# Altium schematic symbol library RNG_Parts.SchLib: 131 symbols (part 1 of 2)
Pins are listed as number, name and electrical type; pins without a type are passive.

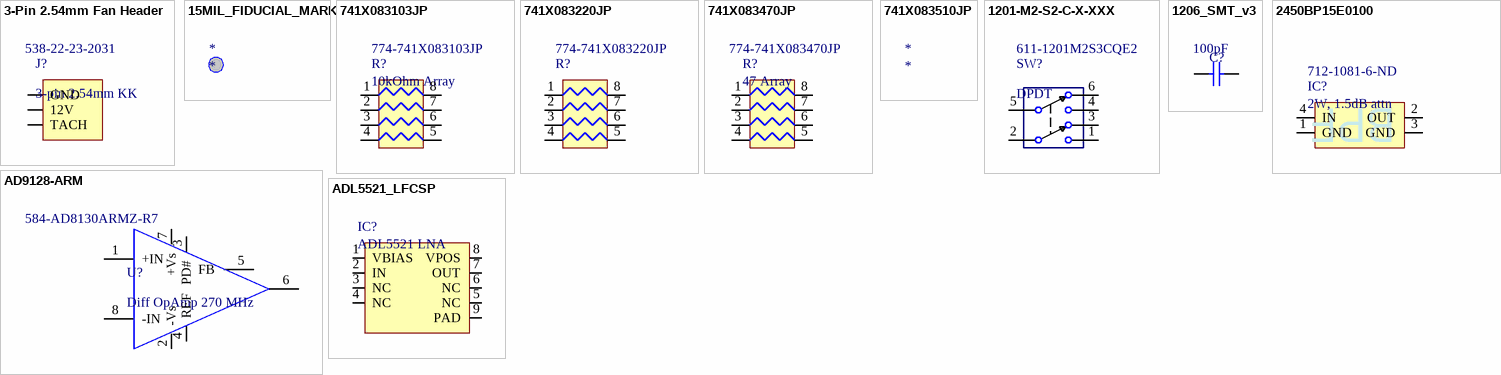
[diagram p0: symbols 3-Pin 2.54mm Fan Header to ADL5521_LFCSP]

## 3-Pin 2.54mm Fan Header
designator J?, comment 3-pin 2.54mm KK  Supplier Part Number 1: 538-22-23-2031
Molex KK Series PCB Mount 3-pin 2.54mm Fan Header; Supplier 1: Mouser
footprint 3-Pin_Fan_Header (Molex KK 2.54mm 3-Pin Fan Header)
pins: 1 GND (power), 2 12V (power), 3 TACH (power)

## 15MIL_FIDUCIAL_MARK
designator *
footprint 1.5mm_FIDUCIAL_v4 (Fiducial Mark - large size w 1mm clearance)

## 741X083103JP
designator R?, comment 10kOhm Array  Supplier Part Number 1: 774-741X083103JP
10k Ohm 4x0402 Resistor Array; Supplier 1: Mouser
footprint 741X083_ChipArray_0402x4_v2 (CTS Chip Array, 4x 0402 Parts for 741X083, 741C083 Part Code)
pins: 1, 2, 3, 4, 5, 6, 7, 8

## 741X083220JP
designator R?, comment Supplier Part Number 1: 774-741X083220JP  (hidden comment: 22 Array)
22 Ohm 4x0402 Resistor Array; Supplier 1: Mouser
footprint 741X083_ChipArray_0402x4_v2 (CTS Chip Array, 4x 0402 Parts for 741X083, 741C083 Part Code)
pins: 1, 2, 3, 4, 5, 6, 7, 8

## 741X083470JP
designator R?, comment 47 Array  Supplier Part Number 1: 774-741X083470JP
47 Ohm 4x0402 Resistor Array; Supplier 1: Mouser
footprint 741X083_ChipArray_0402x4_v2 (CTS Chip Array, 4x 0402 Parts for 741X083, 741C083 Part Code)
pins: 1, 2, 3, 4, 5, 6, 7, 8

## 741X083510JP
designator *
51 Ohm 4x0402 Resistor Array
footprint 741X083_ChipArray_0402x4_v2 (CTS Chip Array, 4x 0402 Parts for 741X083, 741C083 Part Code)

## 1201-M2-S2-C-X-XXX
designator SW?, comment DPDT  Supplier Part Number 1: 611-1201M2S3CQE2
DPDT 6A Slide Switch C&K Thru; Supplier 1: Mouser
footprint 1201-M2-S3-C-QE2 (C&K 1000 Series DPDT Slide Switch Thru Mount)
pins: 1 (power), 2 (power), 3 (power), 4 (power), 5 (power), 6 (power)

## 1206_SMT_v3
designator C?, comment value 100pF  (hidden comment: 1206)
1206 SMT Capacitor
footprint 1206_SMT_v3 (1206 Chip Cap, Res, Ind)
pins: 1, 2

## 2450BP15E0100
designator IC?, comment 2W, 1.5dB attn  Supplier Part Number 1: 712-1081-6-ND
Johanson 2450 MHz Band Pass Ceramic Filter 2400-2500MHz; Supplier 1: Digi-Key
footprint 2450BP15E0100 (Johanson 2450 MHz Band Pass Filter)
pins: 1 GND, 2 OUT, 3 GND, 4 IN
text: BPF

## AD9128-ARM
designator U?, comment Diff OpAmp 270 MHz  Supplier Part Number 1: 584-AD8130ARMZ-R7
AD Differential Receiver Amplifier, 270 MHz; Supplier 1: Mouser
footprint MSOP-8 (TSOP, 8-Leads, Body 3.00x3.00mm, Pitch 0.65mm, IPC Medium Density)
pins: 1 +IN, 2 -Vs, 3 PD#, 4 REF, 5 FB, 6 OUT, 7 +Vs, 8 -IN

## ADL5521_LFCSP
designator IC?, comment ADL5521 LNA
AD 400-4000 MHz LNA, NF 0.8 dB, Gain 20.8 dB
footprint ADL5521_QFN127P600-8N_v4 (ADL5521 8-pin LFCSP)
pins: 1 VBIAS, 2 IN, 3 NC, 4 NC, 5 NC, 6 NC, 7 OUT, 8 VPOS (power), 9 PAD

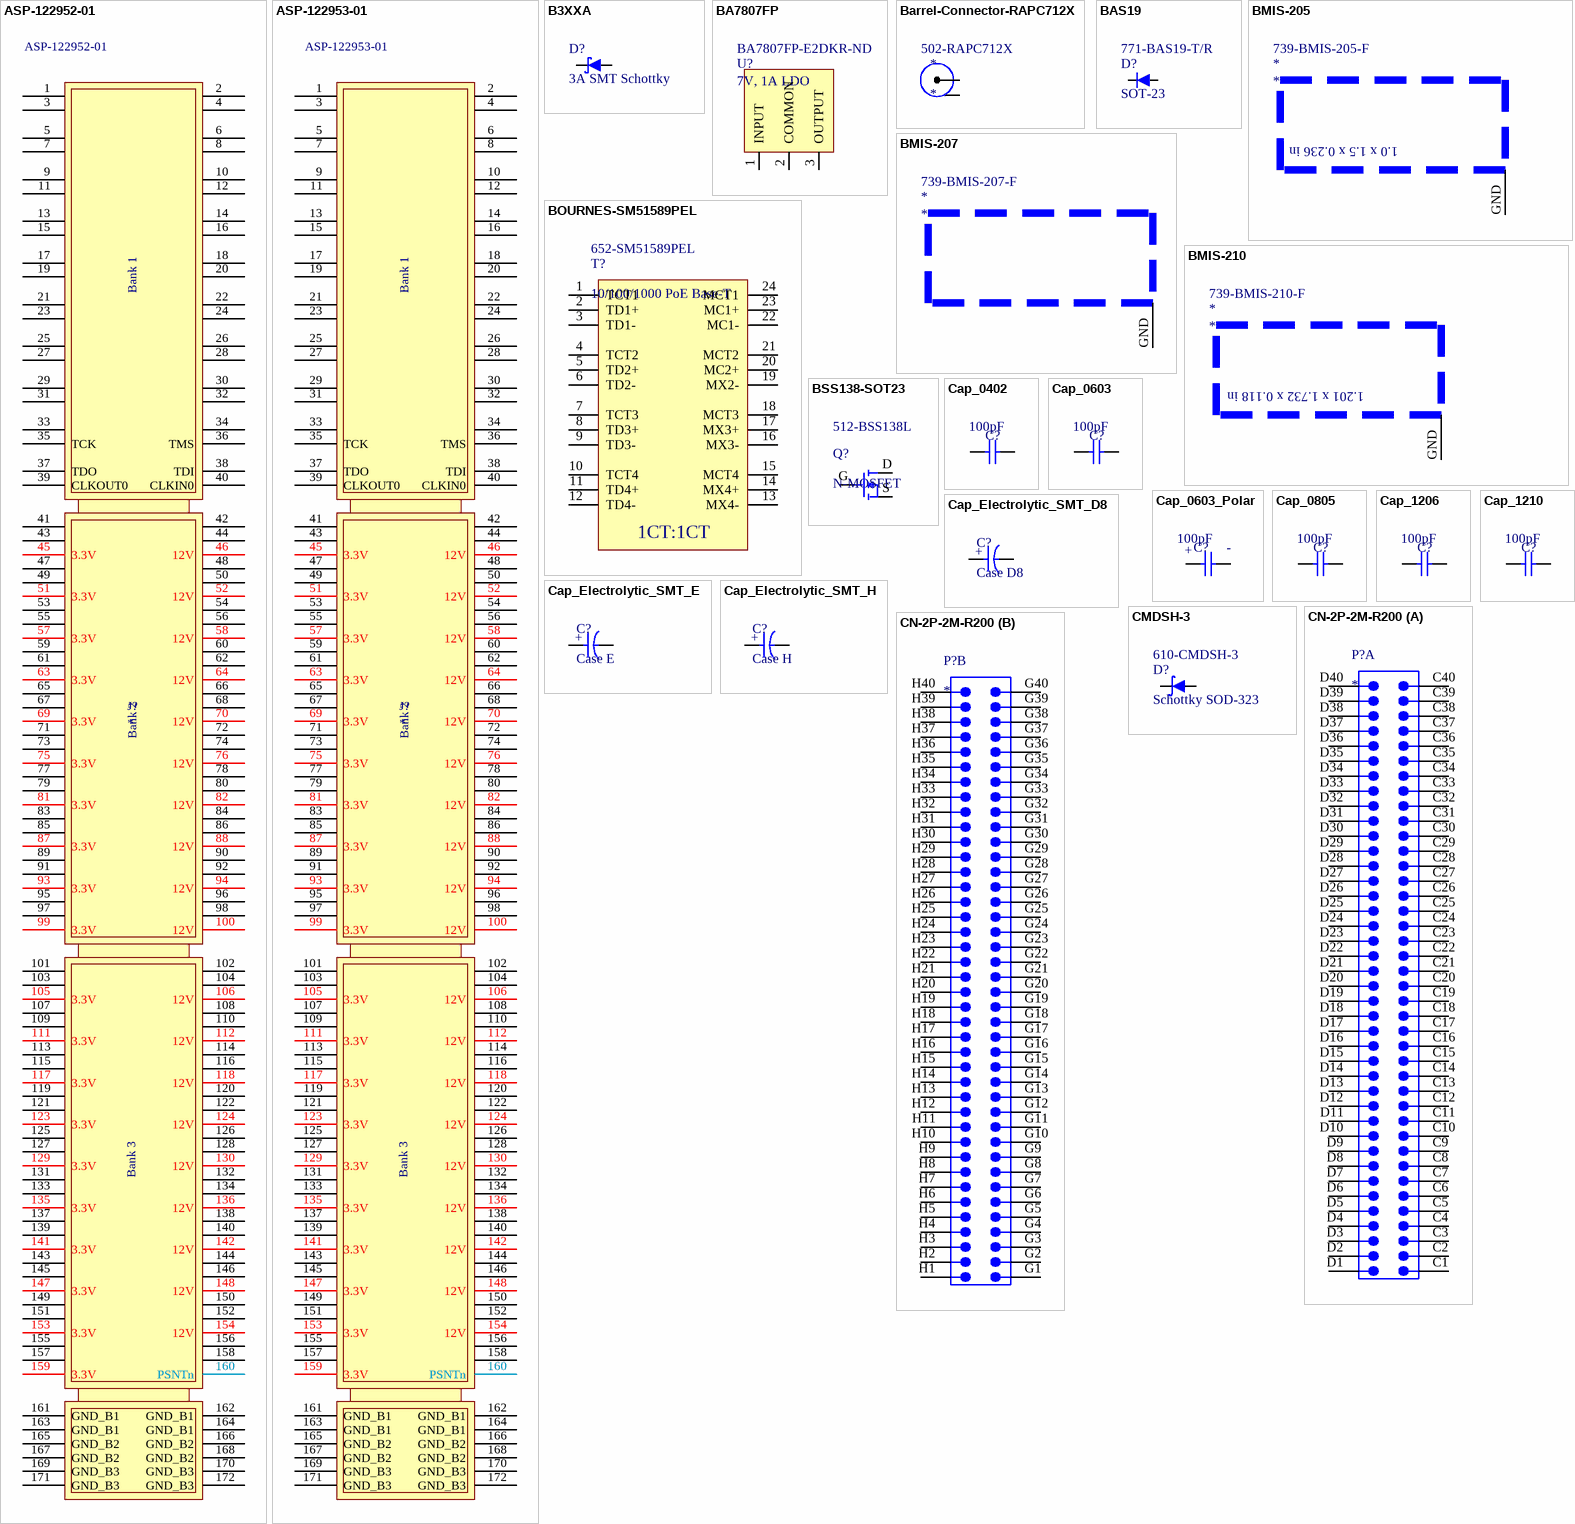
[diagram p1: symbols ASP-122952-01 to CN-2P-2M-R200]

## ASP-122952-01
designator J?
Samtec HSMC Daughtercard Connector (Male)
footprint ASP-122952-01 (Samtec HSMC Daughtercard Connector)
pins: 1, 2, 3, 4, 5, 6, 7, 8, 9, 10, 11, 12, 13, 14, 15, 16, 17, 18, 19, 20, 21, 22, 23, 24, 25, 26, 27, 28, 29, 30, 31, 32, 33 SDA, 34 SCL, 35 TCK, 36 TMS, 37 TDO, 38 TDI, 39 CLKOUT0 (power), 40 CLKIN0 (power), 41, 42, 43, 44, 45 3.3V (power), 46 12V (power), 47, 48, 49, 50, 51 3.3V (power), 52 12V (power), 53, 54, 55, 56, 57 3.3V (power), 58 12V (power), 59, 60, 61, 62, 63 3.3V (power), 64 12V (power), 65, 66, 67, 68, 69 3.3V (power), 70 12V (power), 71, 72, 73, 74, 75 3.3V (power), 76 12V (power), 77, 78, 79, 80, 81 3.3V (power), 82 12V (power), 83, 84, 85, 86, 87 3.3V (power), 88 12V (power), 89, 90, 91, 92, 93 3.3V (power), 94 12V (power), 95, 96, 97, 98, 99 3.3V (power), 100 12V (power), 101, 102, 103, 104, 105 3.3V (power), 106 12V (power), 107, 108, 109, 110, 111 3.3V (power), 112 12V (power), 113, 114, 115, 116, 117 3.3V (power), 118 12V (power), 119, 120, 121, 122, 123 3.3V (power), 124 12V (power), 125, 126, 127, 128, 129 3.3V (power), 130 12V (power), 131, 132, 133, 134, 135 3.3V (power), 136 12V (power), 137, 138, 139, 140, 141 3.3V (power), 142 12V (power), 143, 144, 145, 146, 147 3.3V (power), 148 12V (power), 149, 150, 151, 152, 153 3.3V (power), 154 12V (power), 155, 156, 157, 158, 159 3.3V (power), 160 PSNTn (power), 161 GND_B1 (power), 162 GND_B1 (power), 163 GND_B1 (power), 164 GND_B1 (power), 165 GND_B2 (power), 166 GND_B2 (power), 167 GND_B2 (power), 168 GND_B2 (power), 169 GND_B3 (power), 170 GND_B3 (power), 171 GND_B3 (power), 172 GND_B3 (power)
text: Bank 1; Bank 2; Bank 3

## ASP-122953-01
designator J?
Samtec HSMC Host Connector (Female)
footprint ASP-122953-01_v3 (Samtec HSMC Motherboard Connector)
pins: 1, 2, 3, 4, 5, 6, 7, 8, 9, 10, 11, 12, 13, 14, 15, 16, 17, 18, 19, 20, 21, 22, 23, 24, 25, 26, 27, 28, 29, 30, 31, 32, 33 SDA, 34 SCL, 35 TCK, 36 TMS, 37 TDO, 38 TDI, 39 CLKOUT0, 40 CLKIN0 (power), 41, 42, 43, 44, 45 3.3V (power), 46 12V (power), 47, 48, 49, 50, 51 3.3V (power), 52 12V (power), 53, 54, 55, 56, 57 3.3V (power), 58 12V (power), 59, 60, 61, 62, 63 3.3V (power), 64 12V (power), 65, 66, 67, 68, 69 3.3V (power), 70 12V (power), 71, 72, 73, 74, 75 3.3V (power), 76 12V (power), 77, 78, 79, 80, 81 3.3V (power), 82 12V (power), 83, 84, 85, 86, 87 3.3V (power), 88 12V (power), 89, 90, 91, 92, 93 3.3V (power), 94 12V (power), 95, 96, 97, 98, 99 3.3V (power), 100 12V (power), 101, 102, 103, 104, 105 3.3V (power), 106 12V (power), 107, 108, 109, 110, 111 3.3V (power), 112 12V (power), 113, 114, 115, 116, 117 3.3V (power), 118 12V (power), 119, 120, 121, 122, 123 3.3V (power), 124 12V (power), 125, 126, 127, 128, 129 3.3V (power), 130 12V (power), 131, 132, 133, 134, 135 3.3V (power), 136 12V (power), 137, 138, 139, 140, 141 3.3V (power), 142 12V (power), 143, 144, 145, 146, 147 3.3V (power), 148 12V (power), 149, 150, 151, 152, 153 3.3V (power), 154 12V (power), 155, 156, 157, 158, 159 3.3V (power), 160 PSNTn (power), 161 GND_B1 (power), 162 GND_B1 (power), 163 GND_B1 (power), 164 GND_B1 (power), 165 GND_B2 (power), 166 GND_B2 (power), 167 GND_B2 (power), 168 GND_B2 (power), 169 GND_B3 (power), 170 GND_B3 (power), 171 GND_B3 (power), 172 GND_B3 (power)
text: Bank 1; Bank 2; Bank 3

## B3XXA
designator D?, comment 3A SMT Schottky
3.0A SMT Schottky Barrier Rectifier Diode
footprint DO-214AC-SMA (SMT Diode, Package DO-214AC (SMA))
pins: A, K

## BA7807FP
designator U?, comment 7V, 1A LDO  Supplier Part Number 1: BA7807FP-E2DKR-ND
ROHM 7V, 1000mA LDO; Supplier 1: Digi-Key
footprint TO252-3 (TO252-3 Footprint for ROHM BA7807FP-E2, 7V, 1A LDO)
pins: 1 INPUT, 2 COMMON, 3 OUTPUT

## Barrel-Connector-RAPC712X
designator *  Supplier Part Number 1: 502-RAPC712X
2.5mm Barrel Jack Rt-Angle Thru-Mount; Supplier 1: Mouser
footprint RAPC712X (Rt Angle 2.5mm PCB Thru DC Power Jack RAPC712X)
pins: 1 GND (power), 2 PWR (power)

## BAS19
designator D?, comment SOT-23  Supplier Part Number 1: 771-BAS19-T/R
NXP General Purpose Diode SOT-23; Supplier 1: Mouser
footprint SOT-23-3-BSS138 (SOT-23-3 Fairchild BSS138 Pinout)
pins: D K, G A

## BMIS-205
designator *  Supplier Part Number 1: 739-BMIS-205-F
EMI Shield 1.0 x 1.5 x 0.236 LairdTech; Supplier 1: Mouser
footprint BMIS-205 (LairdTech EMI 2-part Shield Footprint 1.0 x 1.5 in)
pins: GND
text: 1.0 x 1.5 x 0.236 in

## BMIS-207
designator *  Supplier Part Number 1: 739-BMIS-207-F
EMI Shield 1.747x1.747x0.384 in LairdTech; Supplier 1: Mouser
footprint BMIS-207 (LairdTech EMI Shield 1.747x1.747x0.384 in)
pins: GND

## BMIS-210
designator *  Supplier Part Number 1: 739-BMIS-210-F
EMI Shield 1.201x 1.732 x 0.118 LairdTech; Supplier 1: Mouser
footprint BMIS-210 (LairdTech EMI Shield 1.201x1.732x0.118 in)
pins: GND
text: 1.201 x 1.732 x 0.118 in

## BOURNES-SM51589PEL
designator T?, comment 10/100/1000 PoE Base-T  Supplier Part Number 1: 652-SM51589PEL
SM51589PEL LAN 10/100/1000 Base-T Transformer (PoE) Module; Supplier 1: Mouser
footprint BOURNS-SM51589PEL (Bournes SM51589PEL LAN 10/100/1000 Base-T Transformer PoE Module)
pins: 1 TCT1 (power), 2 TD1+ (power), 3 TD1- (power), 4 TCT2 (power), 5 TD2+ (power), 6 TD2- (power), 7 TCT3 (power), 8 TD3+ (power), 9 TD3- (power), 10 TCT4 (power), 11 TD4+ (power), 12 TD4- (power), 13 MX4- (power), 14 MX4+ (power), 15 MCT4 (power), 16 MX3- (power), 17 MX3+ (power), 18 MCT3 (power), 19 MX2- (power), 20 MC2+ (power), 21 MCT2 (power), 22 MC1- (power), 23 MC1+ (power), 24 MCT1 (power)
text: 1CT:1CT

## BSS138-SOT23
designator Q?, comment N-MOSFET  Supplier Part Number 1: 512-BSS138L
SOT-23-3 N-MOSFET; Supplier 1: Mouser
footprint SOT-23-3-BSS138 (SOT-23-3 Fairchild BSS138 Pinout)
pins: D, G, S

## Cap_0402
designator C?, comment value 100pF  (hidden comment: 0402)
0402 SMT Capacitor
footprint 0402_SMT_CAP (0402 Chip Cap, Res, Ind)
pins: 1, 2

## Cap_0603
designator C?, comment value 100pF  (hidden comment: 0603)
0603 SMT Capacitor
footprint 0603_SMT_CAP (0603 Chip Cap)
pins: 1, 2

## Cap_0603_Polar
designator C?, comment value 100pF  (hidden comment: 0603)
0603 SMT Capacitor with polar markings
footprint 0603_SMT_CAP_POLAR (0603 Chip Cap with Polar Placement Marks)
pins: 1, 2
text: +; -

## Cap_0805
designator C?, comment value 100pF  (hidden comment: 0603)
0805 SMT Capacitor
footprint 0805_SMT_CAP (0805 Chip Capacitor)
pins: 1, 2

## Cap_1206
designator C?, comment value 100pF  (hidden comment: 1206)
1206 SMT Capacitor
footprint 1206_SMT_IPC (Chip Capacitor, 2-Leads, Body 3.10x1.60mm, IPC Medium Density)
pins: 1, 2

## Cap_1210
designator C?, comment value 100pF  (hidden comment: 1210)
1210 SMT Capacitor
footprint 1210_Chip_Cap_v2 (Chip Capacitor, 2-Leads, Body 3.05x2.54mm, IPC Medium Density)
pins: 1, 2

## Cap_Electrolytic_SMT_D8
designator C?, comment Case D8
Electrolytic SMT Capacitor, Case D8
footprint Panasonic_SMT_D8 (Panasonic Body D8 Electrolytic SMT Cap)
pins: A, K
text: +

## Cap_Electrolytic_SMT_E
designator C?, comment Case E
Electrolytic SMT Capacitor, Case E
footprint Panasonic_SMT_SV_E (Panasonic Type V, Series S, Body E Electrolytic SMT Cap)
pins: A, K
text: +

## Cap_Electrolytic_SMT_H
designator C?, comment Case H
Electrolytic SMT Capacitor, Case H
footprint Panasonic_SMT_SV_H (Panasonic Type V, Series S, Body H Electrolytic SMT Cap)
pins: A, K
text: +

## CMDSH-3
designator D?, comment Schottky SOD-323  Supplier Part Number 1: 610-CMDSH-3
SMT Silicon Schottky Diode; Supplier 1: Mouser
footprint SOD-323 (SODFL, 2-Leads, Body 1.30x2.50mm, IPC Medium Density)
pins: A, K

## CN-2P-2M-R200
designator P?
Board-to-Board Connector, Vertical, 10-Row, Pitch 1.27mm, 200-Position
footprint BTB-SM1-27-2V200M (Board-to-Board Connector, Vertical, 10-Row, Pitch 1.27mm, 200-Position)
part A pins: C1, C2, C3, C4, C5, C6, C7, C8, C9, C10, C11, C12, C13, C14, C15, C16, C17, C18, C19, C20, C21, C22, C23, C24, C25, C26, C27, C28, C29, C30, C31, C32, C33, C34, C35, C36, C37, C38, C39, C40, D1, D2, D3, D4, D5, D6, D7, D8, D9, D10, D11, D12, D13, D14, D15, D16, D17, D18, D19, D20, D21, D22, D23, D24, D25, D26, D27, D28, D29, D30, D31, D32, D33, D34, D35, D36, D37, D38, D39, D40
part B pins: G1, G2, G3, G4, G5, G6, G7, G8, G9, G10, G11, G12, G13, G14, G15, G16, G17, G18, G19, G20, G21, G22, G23, G24, G25, G26, G27, G28, G29, G30, G31, G32, G33, G34, G35, G36, G37, G38, G39, G40, H1, H2, H3, H4, H5, H6, H7, H8, H9, H10, H11, H12, H13, H14, H15, H16, H17, H18, H19, H20, H21, H22, H23, H24, H25, H26, H27, H28, H29, H30, H31, H32, H33, H34, H35, H36, H37, H38, H39, H40
1 alternate drawing of the same symbol

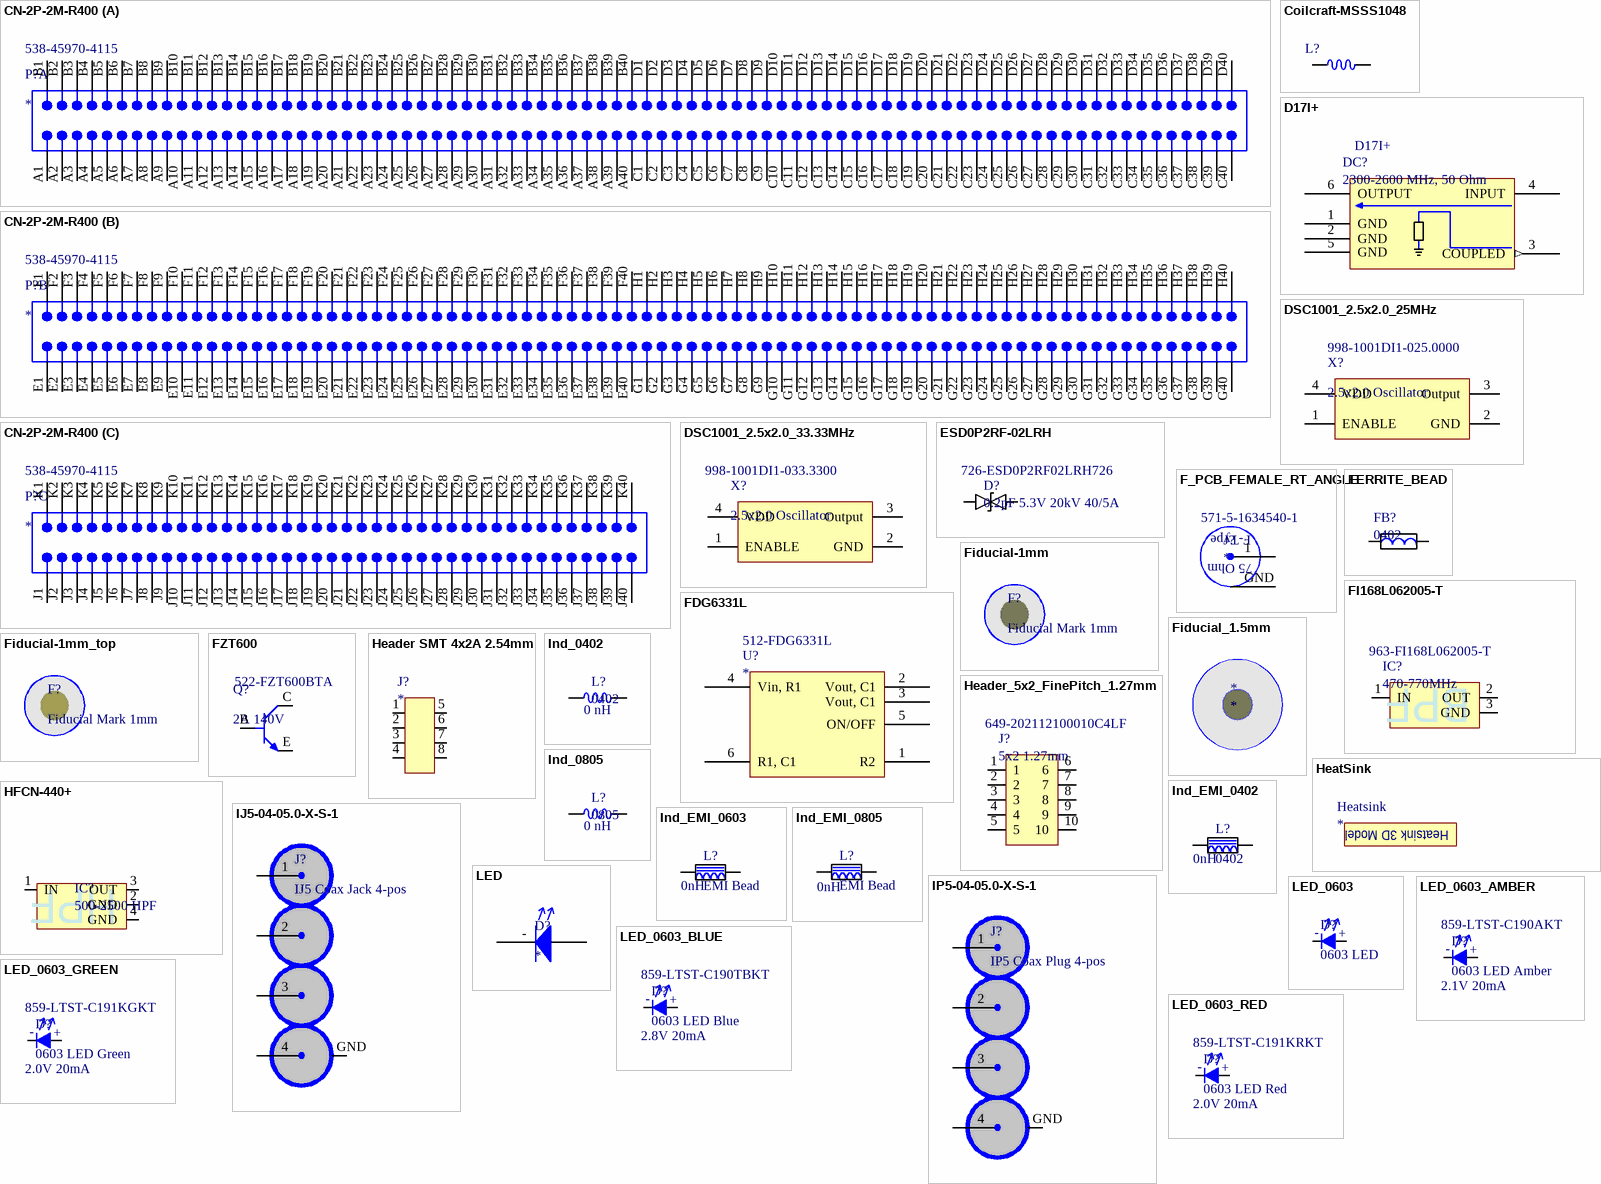
[diagram p2: symbols CN-2P-2M-R400 to LED_0603_RED]

## CN-2P-2M-R400
designator P?  Supplier Part Number 1: 538-45970-4115
Board-to-Board Connector, Vertical, 10-Row, Pitch 1.27mm, 400-Position; Manufacturer: Molex; Manufacturer Part Number: 45970-4115; Current Rating: 2.7 A; Voltage Rating: 240 V; Number of Positions / Contacts: 400; Supplier 1: Mouser; RoHS: RoHS Compliant; Category: Board to Board & Mezzanine Connectors; Stock 1: 161; Pricing 1: 1=36.56, 10=32.14, 100=28.08, 300=26.87 (USD); Contact Plating: Gold; Housing Material: Thermoplastic; Mounting Angle: Vertical; Number of Rows: 10; Packaging: Reel; Series: 45970; Termination Style: SMD; Brand: Molex; Contact Material: Copper Alloy; Pitch: 1.27 mm; Product Category: Mezzanine Connectors; Product Type: Plugs; Standard Pack Qty: 300; Tradename: SEARAY; RoHS - Mouser: Y; Minimum Order Quantity: 1; Reeling: True; ComponentLink1URL: http://www.mouser.com/ds/2/276/0459704115_PCB_HEADERS-169229.pdf; ComponentLink1Description: http://www.mouser.com/ds/2/276/0459704115_PCB_HEADERS-169229.pdf
footprint BTB-SM1-27-2V400M (Board-to-Board Connector, Vertical, 10-Row, Pitch 1.27mm, 400-Position)
part A pins: A1, A2, A3, A4, A5, A6, A7, A8, A9, A10, A11, A12, A13, A14, A15, A16, A17, A18, A19, A20, A21, A22, A23, A24, A25, A26, A27, A28, A29, A30, A31, A32, A33, A34, A35, A36, A37, A38, A39, A40, B1, B2, B3, B4, B5, B6, B7, B8, B9, B10, B11, B12, B13, B14, B15, B16, B17, B18, B19, B20, B21, B22, B23, B24, B25, B26, B27, B28, B29, B30, B31, B32, B33, B34, B35, B36, B37, B38, B39, B40, C1, C2, C3, C4, C5, C6, C7, C8, C9, C10, C11, C12, C13, C14, C15, C16, C17, C18, C19, C20, C21, C22, C23, C24, C25, C26, C27, C28, C29, C30, C31, C32, C33, C34, C35, C36, C37, C38, C39, C40, D1, D2, D3, D4, D5, D6, D7, D8, D9, D10, D11, D12, D13, D14, D15, D16, D17, D18, D19, D20, D21, D22, D23, D24, D25, D26, D27, D28, D29, D30, D31, D32, D33, D34, D35, D36, D37, D38, D39, D40
part B pins: E1, E2, E3, E4, E5, E6, E7, E8, E9, E10, E11, E12, E13, E14, E15, E16, E17, E18, E19, E20, E21, E22, E23, E24, E25, E26, E27, E28, E29, E30, E31, E32, E33, E34, E35, E36, E37, E38, E39, E40, F1, F2, F3, F4, F5, F6, F7, F8, F9, F10, F11, F12, F13, F14, F15, F16, F17, F18, F19, F20, F21, F22, F23, F24, F25, F26, F27, F28, F29, F30, F31, F32, F33, F34, F35, F36, F37, F38, F39, F40, G1, G2, G3, G4, G5, G6, G7, G8, G9, G10, G11, G12, G13, G14, G15, G16, G17, G18, G19, G20, G21, G22, G23, G24, G25, G26, G27, G28, G29, G30, G31, G32, G33, G34, G35, G36, G37, G38, G39, G40, H1, H2, H3, H4, H5, H6, H7, H8, H9, H10, H11, H12, H13, H14, H15, H16, H17, H18, H19, H20, H21, H22, H23, H24, H25, H26, H27, H28, H29, H30, H31, H32, H33, H34, H35, H36, H37, H38, H39, H40
part C pins: J1, J2, J3, J4, J5, J6, J7, J8, J9, J10, J11, J12, J13, J14, J15, J16, J17, J18, J19, J20, J21, J22, J23, J24, J25, J26, J27, J28, J29, J30, J31, J32, J33, J34, J35, J36, J37, J38, J39, J40, K1, K2, K3, K4, K5, K6, K7, K8, K9, K10, K11, K12, K13, K14, K15, K16, K17, K18, K19, K20, K21, K22, K23, K24, K25, K26, K27, K28, K29, K30, K31, K32, K33, K34, K35, K36, K37, K38, K39, K40
1 alternate drawing of the same symbol

## Coilcraft-MSSS1048
designator L?  (value not drawn)
Shielded Power Inductor
footprint MSS1048 (MS1048 Coilcraft Shielded Power Inductors)
pins: 1, 2

## D17I+
designator DC?, comment 2300-2600 MHz, 50 Ohm  Supplier Part Number 1: D17I+
Mini-Circuits 2300-2600 MHz Directional Coupler 50 Ohm; Supplier 1: Mini-Circuits
footprint CA531-1_v2 (Mini-Circuits Case Style CA531-1 for Directional Couplers)
pins: 1 GND (power) "Ground", 2 GND (power) "Ground", 3 COUPLED (out) "Coupled RF", 4 INPUT "RF Input", 5 GND (power) "Ground", 6 OUTPUT "RF Output"

## DSC1001_2.5x2.0_25MHz
designator X?, comment 2.5x2.0 Oscillator  Supplier Part Number 1: 998-1001DI1-025.0000
Discera Low-Power Precision CMOS 25 MHz Oscillator - 2.5x2.0 mm; Supplier 1: Mouser
footprint DSC1001-2.5x2.0 (Discera Low-Power Precision Oscillator 2.5x2.0 mm)
pins: 1 ENABLE, 2 GND, 3 Output, 4 VDD

## DSC1001_2.5x2.0_33.33MHz
designator X?, comment 2.5x2.0 Oscillator  Supplier Part Number 1: 998-1001DI1-033.3300
Discera Low-Power Precision CMOS 33.33 MHz Oscillator - 2.5x2.0 mm; Supplier 1: Mouser
footprint DSC1001-2.5x2.0 (Discera Low-Power Precision Oscillator 2.5x2.0 mm)
pins: 1 ENABLE, 2 GND, 3 Output, 4 VDD

## ESD0P2RF-02LRH
designator D?, comment 0.2pF 5.3V 20kV 40/5A  Supplier Part Number 1: 726-ESD0P2RF02LRH726
Bidirectional TVS Diode for RF Protection - Infineon; Supplier 1: Mouser
footprint TSLP-2-17 (PG-TSLP-2-17_Infineon_ESD0P2RF_TVS_Diode)
pins: 1, 2

## F_PCB_FEMALE_RT_ANGLE
designator J?  Supplier Part Number 1: 571-5-1634540-1
Right-Angle Through-PCB Female F-Type Connector, TE Connectivity, 75 Ohm; Supplier 1: Mouser
footprint F_RT_ANGLE_PCB_FEMALE_5-1634540-1 (TE Connectivity 5-1634540-1 F-Type PCB Female Rt-Angle Mount)
pins: 1 Signal (power), GND (power)
text: F-Type; 75 Ohm

## FDG6331L
designator U?  Supplier Part Number 1: 512-FDG6331L
Integrated Load Switch, 0.8A, 2.5-8V, SC70-6; Supplier 1: Mouser
footprint SC-70-6 (Fairchild SC-70 6-pin package)
pins: 1 R2, 2 Vout, C1, 3 Vout, C1, 4 Vin, R1, 5 ON/OFF, 6 R1, C1

## FERRITE_BEAD
designator FB?, comment 0402
Ferrite Bead, Various Values
footprint 0402_SMT_v2 (0402 Chip Cap, Res, Ind)
pins: 1, 2

## FI168L062005-T
designator IC?, comment 470-770MHz  Supplier Part Number 1: 963-FI168L062005-T
Taido Yuden Band- and Low-Pass Ceramic Filter for FI168 Type; Supplier 1: Mouser
footprint FI168B/L Taido Yuden (Taido Yuden Band- and Low-Pass Ceramic Filter for FI168 Type)
pins: 1 IN, 2 OUT, 3 GND
text: BPF

## Fiducial-1mm
designator F?, comment Fiducial Mark 1mm
footprint 1mm_FIDUCIAL (Fiducial Mark)

## Fiducial-1mm_top
designator F?, comment Fiducial Mark 1mm
footprint 1mm_FIDUCIAL-TOPONLY (Fiducial Mark)

## Fiducial_1.5mm
designator *
footprint 1.5mm_FIDUCIAL_v4 (Fiducial Mark - large size w 1mm clearance)

## FZT600
designator Q?, comment 2A 140V  Supplier Part Number 1: 522-FZT600BTA
NPN Power Darlington Transistor; Supplier 1: Mouser
footprint SOT-223-3-FZT600 (SOT223 pkg, 6.7 x 7.3 x 1.8 mm)
pins: B, C, E

## Header SMT 4x2A 2.54mm
designator J?
Header SMT 4x2A 2.54mm
footprint 2.54mm_4x2_HDR (4x2 SMT Pin Header, 2.54mm Pitch)
pins: 1, 2, 3, 4, 5, 6, 7, 8

## Header_5x2_FinePitch_1.27mm
designator J?, comment 5x2 1.27mm  Supplier Part Number 1: 649-202112100010C4LF
5X2 1.27 SMT Header Pins; Supplier 1: Mouser
footprint 1.27mm_2x5_SMT_HDR (2x5 SMT Pin Header, 1.27mm Pitch)
pins: 1, 2, 3, 4, 5, 6, 7, 8, 9, 10

## HeatSink
designator Heatsink
HeatSinkUSA 3D Model
text: Heatsink 3D Model

## HFCN-440+
designator IC?, comment 500-2500 HPF
Mini-Circuits High-Pass 500-2500 MHz Filter SMT
footprint HFCN-440+_v2 (Mini-Circuits High-Pass 500-2500 MHz SMT High-Pass Filter)
pins: 1 IN, 2 GND, 3 OUT, 4 GND
text: HPF

## IJ5-04-05.0-X-S-1
designator J?, comment IJ5 Coax Jack 4-pos
Samtec 50 Ohm High Isolation RF Jack, 4-pos; Manufacturer 1: Samtec
footprint IJ5-04-05.0-X-S-1 (Samtec IJ5 50 Ohm High-Isolation RF Jack, 4-POS, Single Row)
pins: 1, 2, 3, 4, GND

## Ind_0402
designator L?, comment 0402  value 0 nH
0402 SMT Inductor
footprint 0402_SMT_RES (0402 Imperial Surface Mount Resistor)
pins: 1, 2

## Ind_0805
designator L?, comment 0805  value 0 nH
0805 SMT Inductor
footprint 0805_SMT_RES (0805 Chip Resistor)
pins: 1, 2

## Ind_EMI_0402
designator L?, comment 0402  value 0nH
0402 SMT EMI Inductor
footprint CAP0402R (Capacitor 0402 reflow soldering)
pins: 1, 2

## Ind_EMI_0603
designator L?, comment EMI Bead  value 0nH
0603 SMT EMI Inductor
footprint CAP0603R (capacitor 0603 reflow soldering)
pins: 1, 2

## Ind_EMI_0805
designator L?, comment EMI Bead  value 0nH
0805 SMT EMI Inductor
footprint CAP0805R (capacitor 0805 reflow soldering)
pins: 1, 2

## IP5-04-05.0-X-S-1
designator J?, comment IP5 Coax Plug 4-pos
Samtec 50 Ohm High Isolation RF Plugs, 4-pos
footprint IP5-04-05.0-X-S-1 (Samtec IP5 50 Ohm High Isolation RF Plugs, 4 Pos, Single Row)
pins: 1, 2, 3, 4, GND

## LED
designator D?
footprint 0603_SMT_POLAR (0603 Chip LED w/ Polarity)
pins: + Anode (power), - Cathode (power)

## LED_0603
designator D?, comment 0603 LED
0603 LED with Polar Markings
footprint 0603_SMT_LED (0603 Chip Cap with Polar Placement Marks)
pins: 1 P, 2 N
text: -; +

## LED_0603_AMBER
designator D?, comment 0603 LED Amber  value 2.1V 20mA  Supplier Part Number 1: 859-LTST-C190AKT
0603 LED with Polar Markings; Supplier 1: Mouser
footprint 0603_SMT_LED (0603 Chip Cap with Polar Placement Marks)
pins: 1 P, 2 N
text: -; +

## LED_0603_BLUE
designator D?, comment 0603 LED Blue  value 2.8V 20mA  Supplier Part Number 1: 859-LTST-C190TBKT
0603 LED with Polar Markings; Supplier 1: Mouser
footprint 0603_SMT_LED (0603 Chip Cap with Polar Placement Marks)
pins: 1 P, 2 N
text: -; +

## LED_0603_GREEN
designator D?, comment 0603 LED Green  value 2.0V 20mA  Supplier Part Number 1: 859-LTST-C191KGKT
0603 LED with Polar Markings; Supplier 1: Mouser
footprint 0603_SMT_LED (0603 Chip Cap with Polar Placement Marks)
pins: 1 P, 2 N
text: -; +

## LED_0603_RED
designator D?, comment 0603 LED Red  value 2.0V 20mA  Supplier Part Number 1: 859-LTST-C191KRKT
0603 LED with Polar Markings; Supplier 1: Mouser
footprint 0603_SMT_LED (0603 Chip Cap with Polar Placement Marks)
pins: 1 P, 2 N
text: -; +

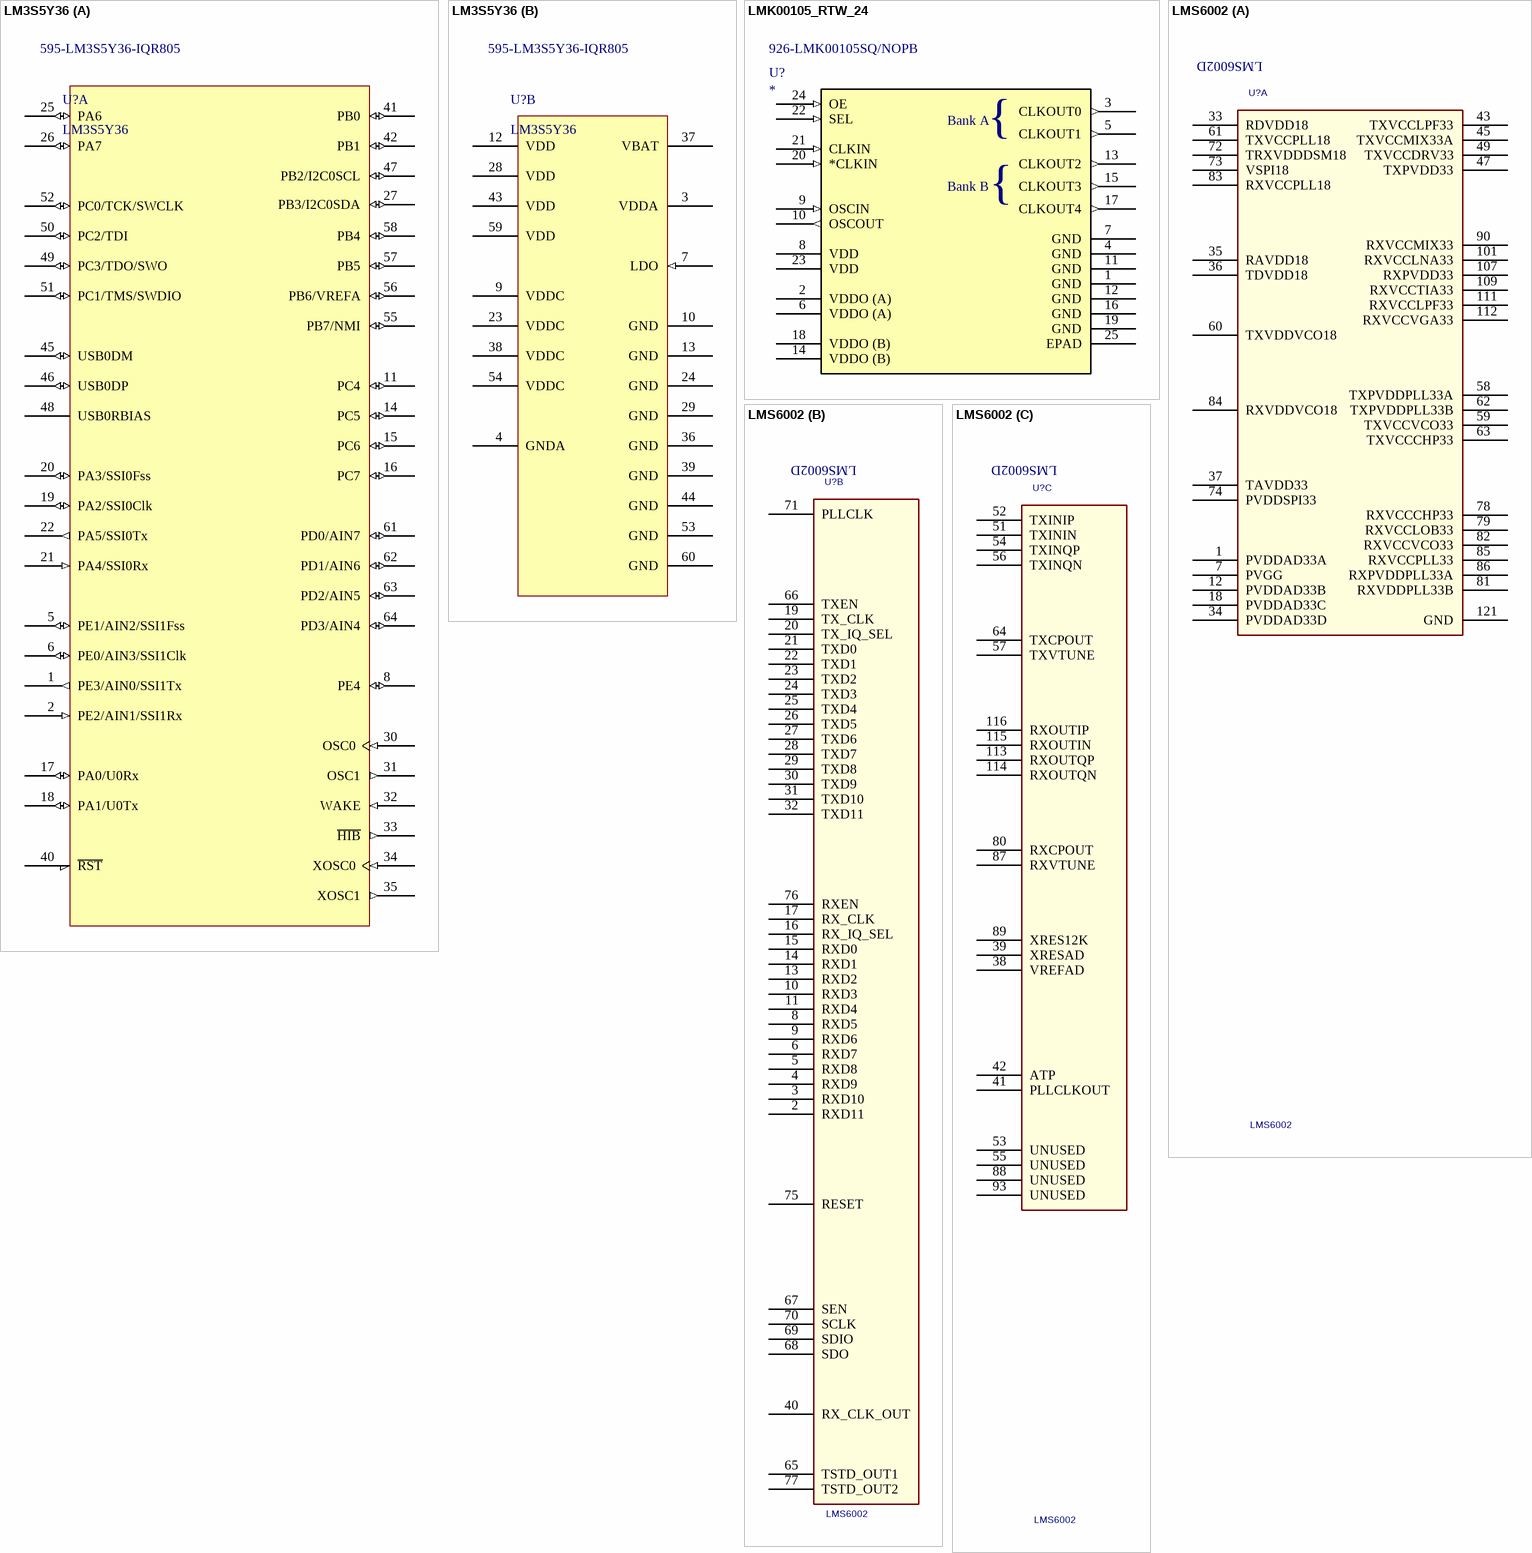
[diagram p3: symbols LM3S5Y36 to LMS6002]

## LM3S5Y36
designator U?  Supplier Part Number 1: 595-LM3S5Y36-IQR805
TI Stellaris LM3S5Y36 Microcontroller; Supplier 1: Mouser
footprint PQFP-64-TI_Stellaris (TSQFP, 64-Leads, Body 12.2x12.2mm (max), Pitch 0.50mm, IPC Medium Density)
part A pins: 1 PE3/AIN0/SSI1Tx (out) "Analog-to-digital converter input 0.", 2 PE2/AIN1/SSI1Rx (in) "Analog-to-digital converter input 1.", 5 PE1/AIN2/SSI1Fss (io) "GPIO port E bit 1.", 6 PE0/AIN3/SSI1Clk (io) "GPIO port E bit 0.", 8 PE4 (io) "GPIO port E bit 4.", 11 PC4 (io) "GPIO port C bit 4.", 14 PC5 (io) "GPIO port C bit 5.", 15 PC6 (io) "GPIO port C bit 6.", 16 PC7 (io) "GPIO port C bit 7.", 17 PA0/U0Rx (io) "UART module 0 receive. When in IrDA mode, this signal has IrDA modulation.", 18 PA1/U0Tx (io) "UART module 0 transmit. When in IrDA mode, this signal has IrDA modulation.", 19 PA2/SSI0Clk (io) "SSI module 0 clock.", 20 PA3/SSI0Fss (io) "SSI module 0 frame.", 21 PA4/SSI0Rx (in) "SSI module 0 receive.", 22 PA5/SSI0Tx (out) "SSI module 0 transmit.", 25 PA6 (io) "GPIO port A bit 6.", 26 PA7 (io) "GPIO port A bit 7.", 27 PB3/I2C0SDA (io) "GPIO port B bit 3.", 30 OSC0 (in) "Main oscillator crystal input or an external clock reference input.", 31 OSC1 (out) "Main oscillator crystal output. Leave unconnected when using a single-ended clock source.", 32 WAKE (in) "An external input that brings the processor out of Hibernate mode when asserted.", 33 ~{HIB} (out) "An output that indicates the processor is in Hibernate mode.", 34 XOSC0 (in) "Hibernation module oscillator crystal input or an external clock reference input. Note that this is either a 4.194304-MHz crystal or a 32.768-kHz oscillator for the Hibernation module RTC. See the CLKSEL bit in the HIBCTL register.", 35 XOSC1 (out) "Hibernation module oscillator crystal input or an external clock reference input. Note that this is either a 4.194304-MHz crystal or a 32.768-kHz oscillator for the Hibernation module RTC. See the CLKSEL bit in the HIBCTL register.", 40 ~{RST} (hiz) "System reset input.", 41 PB0 (io) "GPIO port B bit 0. This pin is not 5-V tolerant.", 42 PB1 (io) "GPIO port B bit 1. This pin is not 5-V tolerant.", 45 USB0DM (io) "Bidirectional differential data pin (D- per USB specification) for USB0.", 46 USB0DP (io) "Bidirectional differential data pin (D+ per USB specification) for USB0.", 47 PB2/I2C0SCL (io) "GPIO port B bit 2.", 48 USB0RBIAS "9.1-kÎ© resistor (1% precision) used internally for USB analog circuitry.", 49 PC3/TDO/SWO (io) "JTAG TDO and SWO.", 50 PC2/TDI (io) "JTAG TDI.", 51 PC1/TMS/SWDIO (io) "JTAG TMS and SWDIO.", 52 PC0/TCK/SWCLK (io) "JTAG/SWD CLK.", 55 PB7/NMI (io) "GPIO port B bit 7.", 56 PB6/VREFA (io) "This input provides a reference voltage used to specify the input voltage at which the ADC converts to a maximum value. In other words, the voltage that is applied to VREFA is the voltage with which an AINn signal is converted to 1023. The VREFA input is limited to the ra", 57 PB5 (io) "GPIO port B bit 5.", 58 PB4 (io) "GPIO port B bit 4.", 61 PD0/AIN7 (io) "GPIO port D bit 0.", 62 PD1/AIN6 (io) "GPIO port D bit 1.", 63 PD2/AIN5 (io) "GPIO port D bit 2.", 64 PD3/AIN4 (io) "GPIO port D bit 3."
part B pins: 3 VDDA (power) "The positive supply for the analog circuits (ADC, Analog Comparators, etc.). These are separated from VDD to minimize the electrical noise contained on VDD from affecting the analog functions. VDDA pins must be supplied with a voltage that meets the specification in , regardless", 4 GNDA (power) "The ground reference for the analog circuits (ADC, Analog Comparators, etc.). These are separated from GND to minimize the electrical noise contained on VDD from affecting the analog functions.", 7 LDO (in) "Low drop-out regulator output voltage. This pin requires an external capacitor between the pin and GND of 1 uF or greater. The LDO pin must also be connected to the VDDC pins at the board level in addition to the decoupling capacitor(s).", 9 VDDC (power) "Positive supply for most of the logic function, including the processor core and most peripherals. The voltage on this pin is 1.3 V and is supplied by the on-chip LDO. The VDDC pins should only be connected to the LDO pin and an external capacitor as specifie", 10 GND (power) "Ground reference for logic and I/O pins.", 12 VDD (power) "Positive supply for I/O and some logic.", 13 GND (power) "Ground reference for logic and I/O pins.", 23 VDDC (power) "Positive supply for most of the logic function, including the processor core and most peripherals. The voltage on this pin is 1.3 V and is supplied by the on-chip LDO. The VDDC pins should only be connected to the LDO pin and an external capacitor as specifie", 24 GND (power) "Ground reference for logic and I/O pins.", 28 VDD (power) "Positive supply for I/O and some logic.", 29 GND (power) "Ground reference for logic and I/O pins.", 36 GND (power) "Ground reference for logic and I/O pins.", 37 VBAT (power) "Power source for the Hibernation module. It is normally connected to the positive terminal of a battery and serves as the battery backup/Hibernation module power-source supply.", 38 VDDC (power) "Positive supply for most of the logic function, including the processor core and most peripherals. The voltage on this pin is 1.3 V and is supplied by the on-chip LDO. The VDDC pins should only be connected to the LDO pin and an external capacitor as specifie", 39 GND (power) "Ground reference for logic and I/O pins.", 43 VDD (power) "Positive supply for I/O and some logic.", 44 GND (power) "Ground reference for logic and I/O pins.", 53 GND (power) "Ground reference for logic and I/O pins.", 54 VDDC (power) "Positive supply for most of the logic function, including the processor core and most peripherals. The voltage on this pin is 1.3 V and is supplied by the on-chip LDO. The VDDC pins should only be connected to the LDO pin and an external capacitor as specifie", 59 VDD (power) "Positive supply for I/O and some logic.", 60 GND (power) "Ground reference for logic and I/O pins."

## LMK00105_RTW_24
designator U?  Supplier Part Number 1: 926-LMK00105SQ/NOPB
TI Universal-to-CMOS 5-Output Clock Buffer; Manufacturer_Part_Number: lmk00105_rtw_24; Vendor: TEXAS INSTRUMENTS; RefDes: RefDes; Type: DEV; Value: Value; Supplier 1: Mouser
footprint RTW24_3 (WQFN-24_TI)
pins: 1 GND (power), 2 VDDO (A) (power), 3 CLKOUT0 (out), 4 GND (power), 5 CLKOUT1 (out), 6 VDDO (A) (power), 7 GND (power), 8 VDD (power), 9 OSCIN (in), 10 OSCOUT (out), 11 GND (power), 12 GND (power), 13 CLKOUT2 (out), 14 VDDO (B) (power), 15 CLKOUT3 (out), 16 GND (power), 17 CLKOUT4 (out), 18 VDDO (B) (power), 19 GND (power), 20 *CLKIN (in), 21 CLKIN (in), 22 SEL (in), 23 VDD (power), 24 OE (in), 25 EPAD
text: Bank A; {; Bank B

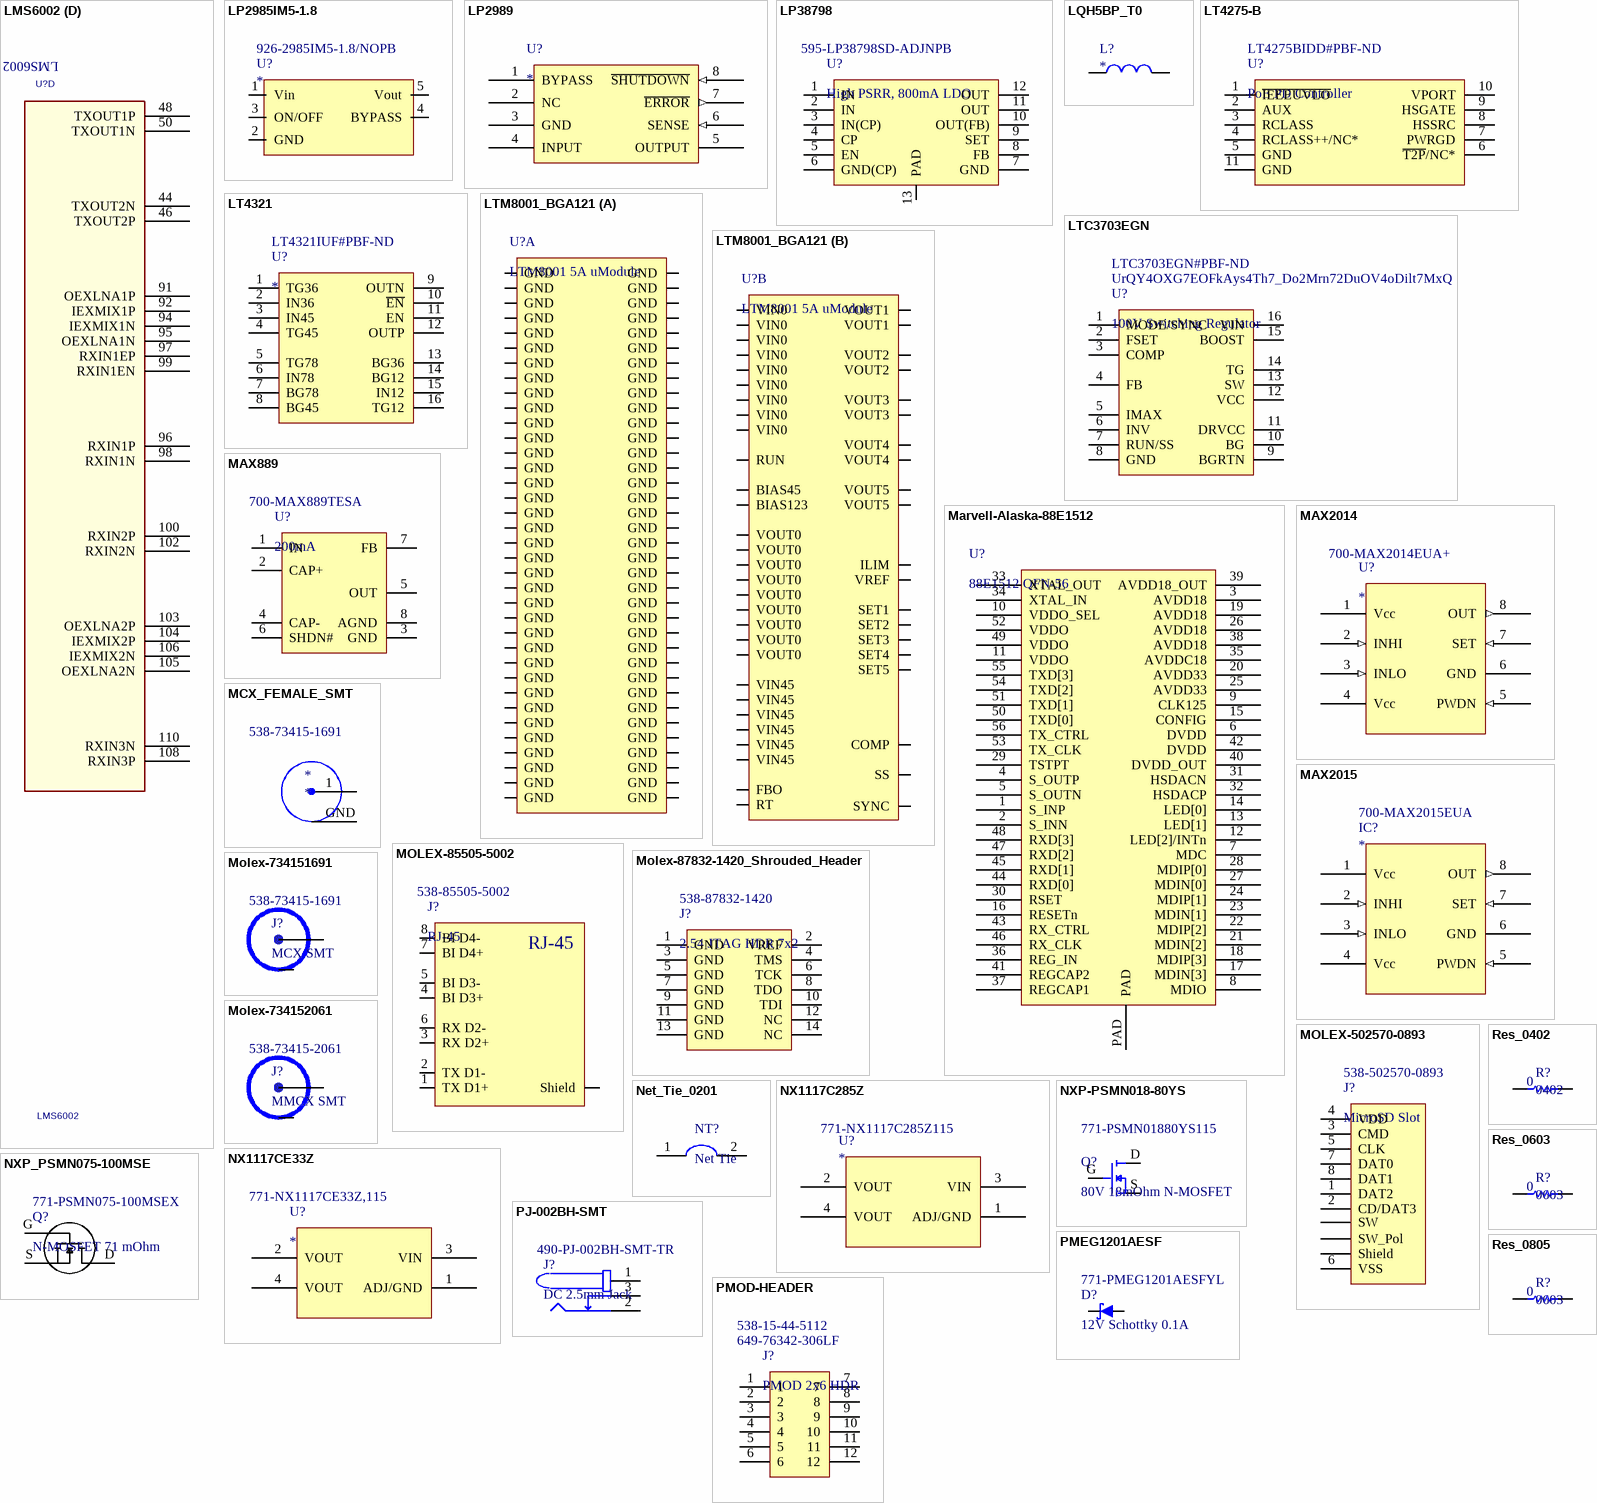
[diagram p4: symbols LMS6002 to Res_0805]

## LMS6002
designator U?
Lime Microsystems Wideband Transceiver Module
footprint LMS6002D_VIAOFFPAD_v2_Window (Lime Microsystems Wideband Transceiver 300-3800MHz)
part A pins: 1 PVDDAD33A, 7 PVGG, 12 PVDDAD33B, 18 PVDDAD33C, 33 RDVDD18, 34 PVDDAD33D, 35 RAVDD18, 36 TDVDD18, 37 TAVDD33, 43 TXVCCLPF33, 45 TXVCCMIX33A, 47 TXPVDD33, 49 TXVCCDRV33, 58 TXPVDDPLL33A, 59 TXVCCVCO33, 60 TXVDDVCO18, 61 TXVCCPLL18, 62 TXPVDDPLL33B, 63 TXVCCCHP33, 72 TRXVDDDSM18, 73 VSPI18, 74 PVDDSPI33, 78 RXVCCCHP33, 79 RXVCCLOB33, 81 RXVDDPLL33B, 82 RXVCCVCO33, 83 RXVCCPLL18, 84 RXVDDVCO18, 85 RXVCCPLL33, 86 RXPVDDPLL33A, 90 RXVCCMIX33, 101 RXVCCLNA33, 107 RXPVDD33, 109 RXVCCTIA33, 111 RXVCCLPF33, 112 RXVCCVGA33, 121 GND
part B pins: 2 RXD11, 3 RXD10, 4 RXD9, 5 RXD8, 6 RXD7, 8 RXD5, 9 RXD6, 10 RXD3, 11 RXD4, 13 RXD2, 14 RXD1, 15 RXD0, 16 RX_IQ_SEL, 17 RX_CLK, 19 TX_CLK, 20 TX_IQ_SEL, 21 TXD0, 22 TXD1, 23 TXD2, 24 TXD3, 25 TXD4, 26 TXD5, 27 TXD6, 28 TXD7, 29 TXD8, 30 TXD9, 31 TXD10, 32 TXD11, 40 RX_CLK_OUT, 65 TSTD_OUT1, 66 TXEN, 67 SEN, 68 SDO, 69 SDIO, 70 SCLK, 71 PLLCLK, 75 RESET, 76 RXEN, 77 TSTD_OUT2
part C pins: 38 VREFAD, 39 XRESAD, 41 PLLCLKOUT, 42 ATP, 51 TXININ, 52 TXINIP, 53 UNUSED, 54 TXINQP, 55 UNUSED, 56 TXINQN, 57 TXVTUNE, 64 TXCPOUT, 80 RXCPOUT, 87 RXVTUNE, 88 UNUSED, 89 XRES12K, 93 UNUSED, 113 RXOUTQP, 114 RXOUTQN, 115 RXOUTIN, 116 RXOUTIP
part D pins: 44 TXOUT2N, 46 TXOUT2P, 48 TXOUT1P, 50 TXOUT1N, 91 OEXLNA1P, 92 IEXMIX1P, 94 IEXMIX1N, 95 OEXLNA1N, 96 RXIN1P, 97 RXIN1EP, 98 RXIN1N, 99 RXIN1EN, 100 RXIN2P, 102 RXIN2N, 103 OEXLNA2P, 104 IEXMIX2P, 105 OEXLNA2N, 106 IEXMIX2N, 108 RXIN3P, 110 RXIN3N
part A text: LMS6002D
part B text: LMS6002D
part C text: LMS6002D
part D text: LMS6002D

## LP2985IM5-1.8
designator U?  Supplier Part Number 1: 926-2985IM5-1.8/NOPB
TO LDO 1.8V 150mA Regulator w/ ON/OFF; Supplier 1: Mouser
footprint SOT-23_5Lead (SOT-23, 5 Pin, for TI LP2985LV)
pins: 1 Vin, 2 GND, 3 ON/OFF, 4 BYPASS, 5 Vout

## LP2989
designator U?
TI LDO 500mA Regulator
footprint LP2989-SO8-SOP127P600-8N (LP2989 SO-8 Land Pattern)
pins: 1 BYPASS, 2 NC, 3 GND (power), 4 INPUT (power), 5 OUTPUT (power), 6 SENSE (in), 7 ~{ERROR} (out), 8 ~{SHUTDOWN} (in)

## LP38798
designator U?, comment High PSRR, 800mA LDO  Supplier Part Number 1: 595-LP38798SD-ADJNPB
High PSRR, Ultra-Low-Noise, 800 mA Linear Voltage Regulator for RF/Analog Circuits; Supplier 1: Mouser
footprint SON-12-0.5 (SON, 12-Leads, Body 4.00x4.00mm, Pitch 0.50mm, Thermal Pad 3.00x2.49mm, IPC Medium Density)
pins: 1 IN, 2 IN, 3 IN(CP), 4 CP, 5 EN, 6 GND(CP), 7 GND, 8 FB, 9 SET, 10 OUT(FB), 11 OUT, 12 OUT, 13 PAD

## LQH5BP_T0
designator L?
LQH5BP_T0 Series Wire Wound Power Inductor (2020 Size)
footprint LQH5BP_T0 2020 Size (2020 Size for Murata LQH5BP_T0 Series Power Inductors)
pins: 1, 2

## LT4275-B
designator U?, comment PoE PD Controller  Supplier Part Number 1: LT4275BIDD#PBF-ND
LTPoE++/PoE+/PoE PD Controller - B - 25W; Supplier 1: Digi-Key
footprint 10-DFN_Linear
pins: 1 ~{IEEEUVLO}, 2 AUX, 3 RCLASS, 4 RCLASS++/NC*, 5 GND, 6 ~{T2P}/NC*, 7 PWRGD, 8 HSSRC, 9 HSGATE, 10 VPORT, 11 GND

## LT4321
designator U?  Supplier Part Number 1: LT4321IUF#PBF-ND
PoE Ideal Diode Bridge Controller; Supplier 1: Digi-Key
footprint 16-QFN_Linear
pins: 1 TG36, 2 IN36, 3 IN45, 4 TG45, 5 TG78, 6 IN78, 7 BG78, 8 BG45, 9 OUTN, 10 ~{EN}, 11 EN, 12 OUTP, 13 BG36, 14 BG12, 15 IN12, 16 TG12

## LTC3703EGN
designator U?, comment 100V Switching Regulator  Supplier Part Number 1: UrQY4OXG7EOFkAys4Th7_Do2Mrn72DuOV4oDilt7MxQ  Supplier Part Number 2: LTC3703EGN#PBF-ND
Linear Tech 100V 16-SSOP Sync Switching Regulator Controller; Supplier 1: Arrow; Supplier 2: Digi-Key
footprint SOP64P600X175-16N (SOP, 16-Leads, Body 4.89x3.90mm, Pitch 0.64mm, IPC Medium Density)
pins: 1 MODE/SYNC, 2 FSET, 3 COMP, 4 FB, 5 IMAX, 6 INV, 7 RUN/SS, 8 GND, 9 BGRTN, 10 BG, 11 DRVCC, 12 VCC, 13 SW, 14 TG, 15 BOOST, 16 VIN

## LTM8001_BGA121
designator U?, comment LTM8001 5A uModule
36Vin, 5A uModule Regulator with 5-Output Configurable LDO Array; Manufacturer Part Number: LTM8001IY#PBF; Supplier 1: Arrow; Supplier 2: Digi-Key; Supplier Part Number 1: 3pgs072oysQdu_9ve5ujledTf9bcEW9xL7FmiN346gk; Supplier Part Number 2: LTM8001EY#PBF-ND
footprint BGA121_15x15x3.42
part A pins: A1 GND, A2 GND, B1 GND, B2 GND, B9 GND, B10 GND, C1 GND, C2 GND, C8 GND, C9 GND, C10 GND, D1 GND, D2 GND, D3 GND, D4 GND, D5 GND, D6 GND, D7 GND, D8 GND, D9 GND, D10 GND, E1 GND, E2 GND, E3 GND, E4 GND, E5 GND, E6 GND, E7 GND, E8 GND, E9 GND, E10 GND, F1 GND, F2 GND, F3 GND, F4 GND, F5 GND, F6 GND, F7 GND, F8 GND, F9 GND, F10 GND, G1 GND, G2 GND, G3 GND, G4 GND, G5 GND, G6 GND, G7 GND, G8 GND, G9 GND, G10 GND, H1 GND, H2 GND, H3 GND, H4 GND, H5 GND, H6 GND, H7 GND, H8 GND, H9 GND, H10 GND, J4 GND, J5 GND, J6 GND, J7 GND, J8 GND, J9 GND, J10 GND, K5 GND, K6 GND, K9 GND, K10 GND
part B pins: A3 VOUT0 (power), A4 VOUT0 (power), A5 VOUT0 (power), A6 VIN45 (power), A7 VIN45 (power), A8 BIAS45 (in), A9 SET5, A10 VOUT5 (power), A11 VOUT5 (power), B3 VOUT0 (power), B4 VOUT0 (power), B5 VOUT0 (power), B6 VIN45 (power), B7 VIN45 (power), B8 BIAS123 (in), B11 VOUT4 (power), C3 VOUT0 (power), C4 VOUT0 (power), C5 VOUT0 (power), C6 VIN45 (power), C7 VIN45 (power), C11 VOUT4 (power), D11 SET4, E11 VOUT3 (power), F11 VOUT3 (power), G11 SET3, H11 SET2, J1 VIN0 (power), J2 VIN0 (power), J3 VIN0 (power), J11 VOUT2 (power), K1 VIN0 (power), K2 VIN0 (power), K3 VIN0 (power), K4 SS, K7 SYNC, K8 VREF, K11 VOUT2 (power), L1 VIN0 (power), L2 VIN0 (power), L3 VIN0 (power), L4 RUN, L5 FBO, L6 COMP, L7 RT, L8 ILIM, L9 SET1, L10 VOUT1 (power), L11 VOUT1 (power)

## Marvell-Alaska-88E1512
designator U?, comment 88E1512 QFN-56
Alaska 88E1512 Gigabit Ethernet PHY 56QFN
footprint QFN-56-Marvell
pins: 1 S_INP, 2 S_INN, 3 AVDD18, 4 S_OUTP, 5 S_OUTN, 6 DVDD, 7 MDC, 8 MDIO, 9 CLK125, 10 VDDO_SEL, 11 VDDO, 12 LED[2]/INTn, 13 LED[1], 14 LED[0], 15 CONFIG, 16 RESETn, 17 MDIN[3], 18 MDIP[3], 19 AVDD18, 20 AVDD33, 21 MDIN[2], 22 MDIP[2], 23 MDIN[1], 24 MDIP[1], 25 AVDD33, 26 AVDD18, 27 MDIN[0], 28 MDIP[0], 29 TSTPT, 30 RSET, 31 HSDACN, 32 HSDACP, 33 XTAL_OUT, 34 XTAL_IN, 35 AVDDC18, 36 REG_IN, 37 REGCAP1, 38 AVDD18, 39 AVDD18_OUT, 40 DVDD_OUT, 41 REGCAP2, 42 DVDD, 43 RX_CTRL, 44 RXD[0], 45 RXD[1], 46 RX_CLK, 47 RXD[2], 48 RXD[3], 49 VDDO, 50 TXD[0], 51 TXD[1], 52 VDDO, 53 TX_CLK, 54 TXD[2], 55 TXD[3], 56 TX_CTRL, PAD

## MAX889
designator U?, comment 200mA  Supplier Part Number 1: 700-MAX889TESA
High-Freq, Regulated, 200mA Inverting Charge Pump, SOIC-8; Supplier 1: Mouser
footprint SOIC-8-MAXIM (SOIC, 8-Leads, Body 4.90x3.90mm, Pitch 1.27mm, IPC Medium Density)
pins: 1 IN, 2 CAP+, 3 GND, 4 CAP-, 5 OUT, 6 SHDN#, 7 FB, 8 AGND

## MAX2014
designator U?  Supplier Part Number 1: 700-MAX2014EUA+
Maxim 50-1000 MHz Log Power Detector; Supplier 1: Mouser
footprint uMAX-8 (uMAX from Maxim, 8-Leads, Body 3.1x3.1mm (max), Pitch 0.65mm, IPC Medium Density, TSOP-like)
pins: 1 Vcc (power), 2 INHI (in) "RF Input HI", 3 INLO (in) "RF Input LO", 4 Vcc (power), 5 PWDN (in) "Power Down (Active High)", 6 GND (power) "Ground", 7 SET (in) "Vset", 8 OUT (out) "Vout"

## MAX2015
designator IC?  Supplier Part Number 1: 700-MAX2015EUA
Maxim 100-3000 MHz Log Power Detector; Supplier 1: Mouser
footprint uMAX-8 (uMAX from Maxim, 8-Leads, Body 3.1x3.1mm (max), Pitch 0.65mm, IPC Medium Density, TSOP-like)
pins: 1 Vcc (power), 2 INHI (in) "RF Input HI", 3 INLO (in) "RF Input LO", 4 Vcc (power), 5 PWDN (in) "Power Down (Active High)", 6 GND (power) "Ground", 7 SET (in) "Vset", 8 OUT (out) "Vout"

## MCX_FEMALE_SMT
designator *  Supplier Part Number 1: 538-73415-1691
MCX 50 Ohm SMT Female Connector; Supplier 1: Mouser
footprint MCX_FEMALE_SMT_JACK (Molex 73415-1691 MCX 50 Ohm Female SMT Jack)
pins: 1 Signal (power), GND (power)

## MOLEX-85505-5002
designator J?, comment RJ-45  Supplier Part Number 1: 538-85505-5002
Molex Cat 5e Shielded Modular Jack Thru Hole NO LED; Supplier 1: Mouser
footprint MOLEX-85505-5002-V4 (RJ-45 Modular Jack, Thru Rt Angle, Cat 5e)
pins: 1 TX D1+ (power), 2 TX D1- (power), 3 RX D2+ (power), 4 BI D3+ (power), 5 BI D3- (power), 6 RX D2- (power), 7 BI D4+ (power), 8 BI D4- (power), SHIELD Shield (power)

## Molex-87832-1420_Shrouded_Header
designator J?, comment 2.54 JTAG HDR 7x2  Supplier Part Number 1: 538-87832-1420
Molex 7x2 2.54 Shrouded SMT Header; Supplier 1: Mouser
footprint MOLEX-87832-1420_v2 (Molex 87832-1420 Shrouded SMT Header 2.0mm 7x2)
pins: 1 GND, 2 VREF, 3 GND, 4 TMS, 5 GND, 6 TCK, 7 GND, 8 TDO, 9 GND, 10 TDI, 11 GND, 12 NC, 13 GND, 14 NC

## MOLEX-502570-0893
designator J?, comment MicroSD Slot  Supplier Part Number 1: 538-502570-0893
Molex MicroSD Memory Card Connector; Supplier 1: Mouser
footprint MOLEX-502570-0893 (Molex MicroSD Memory Card Connector)
pins: 1 DAT2, 2 CD/DAT3, 3 CMD, 4 VDD, 5 CLK, 6 VSS, 7 DAT0, 8 DAT1, DLVR SW_Pol, SHLD Shield, SWMT SW

## Molex-734151691
designator J?, comment MCX SMT  Supplier Part Number 1: 538-73415-1691
Molex 50 Ohm SMT MCX Jack; Supplier 1: Mouser
footprint Molex-734151691 (Molex MCX PCB SMT Jack 50 Ohm)
pins: 0 GND (power), 1 SIG (power)

## Molex-734152061
designator J?, comment MMCX SMT  Supplier Part Number 1: 538-73415-2061
Molex 50 Ohm MMCX SMT Jack; Supplier 1: Mouser
footprint Molex-734152061 (Molex MMCX Jack SMT 50 Ohms)
pins: 0 GND (power), 1 SIG (power)

## Net_Tie_0201
designator NT?, comment Net Tie  (net tie, no BOM)
footprint NET_TIE_0201 (NET TIE)
pins: 1, 2

## NX1117C285Z
designator U?  Supplier Part Number 1: 771-NX1117C285Z115
NXP LDO 1A Regulator 2.85V; Supplier 1: Mouser
footprint SOT223_V2 (SOT223 pkg, 6.7 x 7.3 x 1.8 mm)
pins: 1 ADJ/GND (power), 2 VOUT (power), 3 VIN (power), 4 VOUT (power)

## NX1117CE33Z
designator U?  Supplier Part Number 1: 771-NX1117CE33Z,115
NXP LDO 1A Regulator 3.3V; Supplier 1: Mouser
footprint SOT223_V2 (SOT223 pkg, 6.7 x 7.3 x 1.8 mm)
pins: 1 ADJ/GND (power), 2 VOUT (power), 3 VIN (power), 4 VOUT (power)

## NXP-PSMN018-80YS
designator Q?, comment 80V 18mOhm N-MOSFET  Supplier Part Number 1: 771-PSMN01880YS115
NXP N-MOSFET for DC-DC Power Switching, SOT-669 LFPAK; Supplier 1: Mouser
footprint SOT-669 (NXP SOT-669 for LFPAK MOSFET)
pins: D, G, S

## NXP_PSMN075-100MSE
designator Q?, comment N-MOSFET 71 mOhm  Supplier Part Number 1: 771-PSMN075-100MSEX
PSMN075-100MSE N-MOSFET 100V 71mOhm in LFPAK33 for PoE; Supplier 1: Mouser
footprint SOT1210_NXP (NXP SOT-1210 Footprint for LFPAK33)
pins: D, G, S

## PJ-002BH-SMT
designator J?, comment DC 2.5mm Jack  Supplier Part Number 1: 490-PJ-002BH-SMT-TR
CUI DC Power Jack SMT; Supplier 1: Mouser
footprint PJ-002BH-SMT (CUI DC Power Jack SMT, 2.5mm/6.5mm)
pins: 1 VDD, 2 VDD, 3 VDD

## PMEG1201AESF
designator D?, comment 12V Schottky 0.1A  Supplier Part Number 1: 771-PMEG1201AESFYL
12V, 0.1A Low VF Schottky Barrier Rectifier; Supplier 1: Mouser
footprint SOD-962 (Leadless Ultra-Small Diode Package, NXP)
pins: A, K

## PMOD-HEADER
designator J?, comment PMOD 2x6 HDR  Supplier Part Number 1: 649-76342-306LF  Supplier Part Number 2: 538-15-44-5112
FCI/Molex Stright, Thru 2.54 Header for 12-pin PMOD; Supplier 1: Mouser; Supplier 2: Mouser
footprint MOLEX-01544-5122_v2 (Molex 2x6 2.54mm Striaght Thru Receptacle for PMOD)
pins: 1, 2, 3, 4, 5, 6, 7, 8, 9, 10, 11, 12

## Res_0402
designator R?, comment 0402  value 0
0402 SMT Resistor
footprint 0402_SMT_RES (0402 Imperial Surface Mount Resistor)
pins: 1, 2

## Res_0603
designator R?, comment 0603  value 0
0603 SMT Resistor
footprint 0603_SMT_RES (0603 Chip Resistor)
pins: 1, 2

## Res_0805
designator R?, comment 0603  value 0
0805 SMT Resistor
footprint 0805_SMT_RES (0805 Chip Resistor)
pins: 1, 2

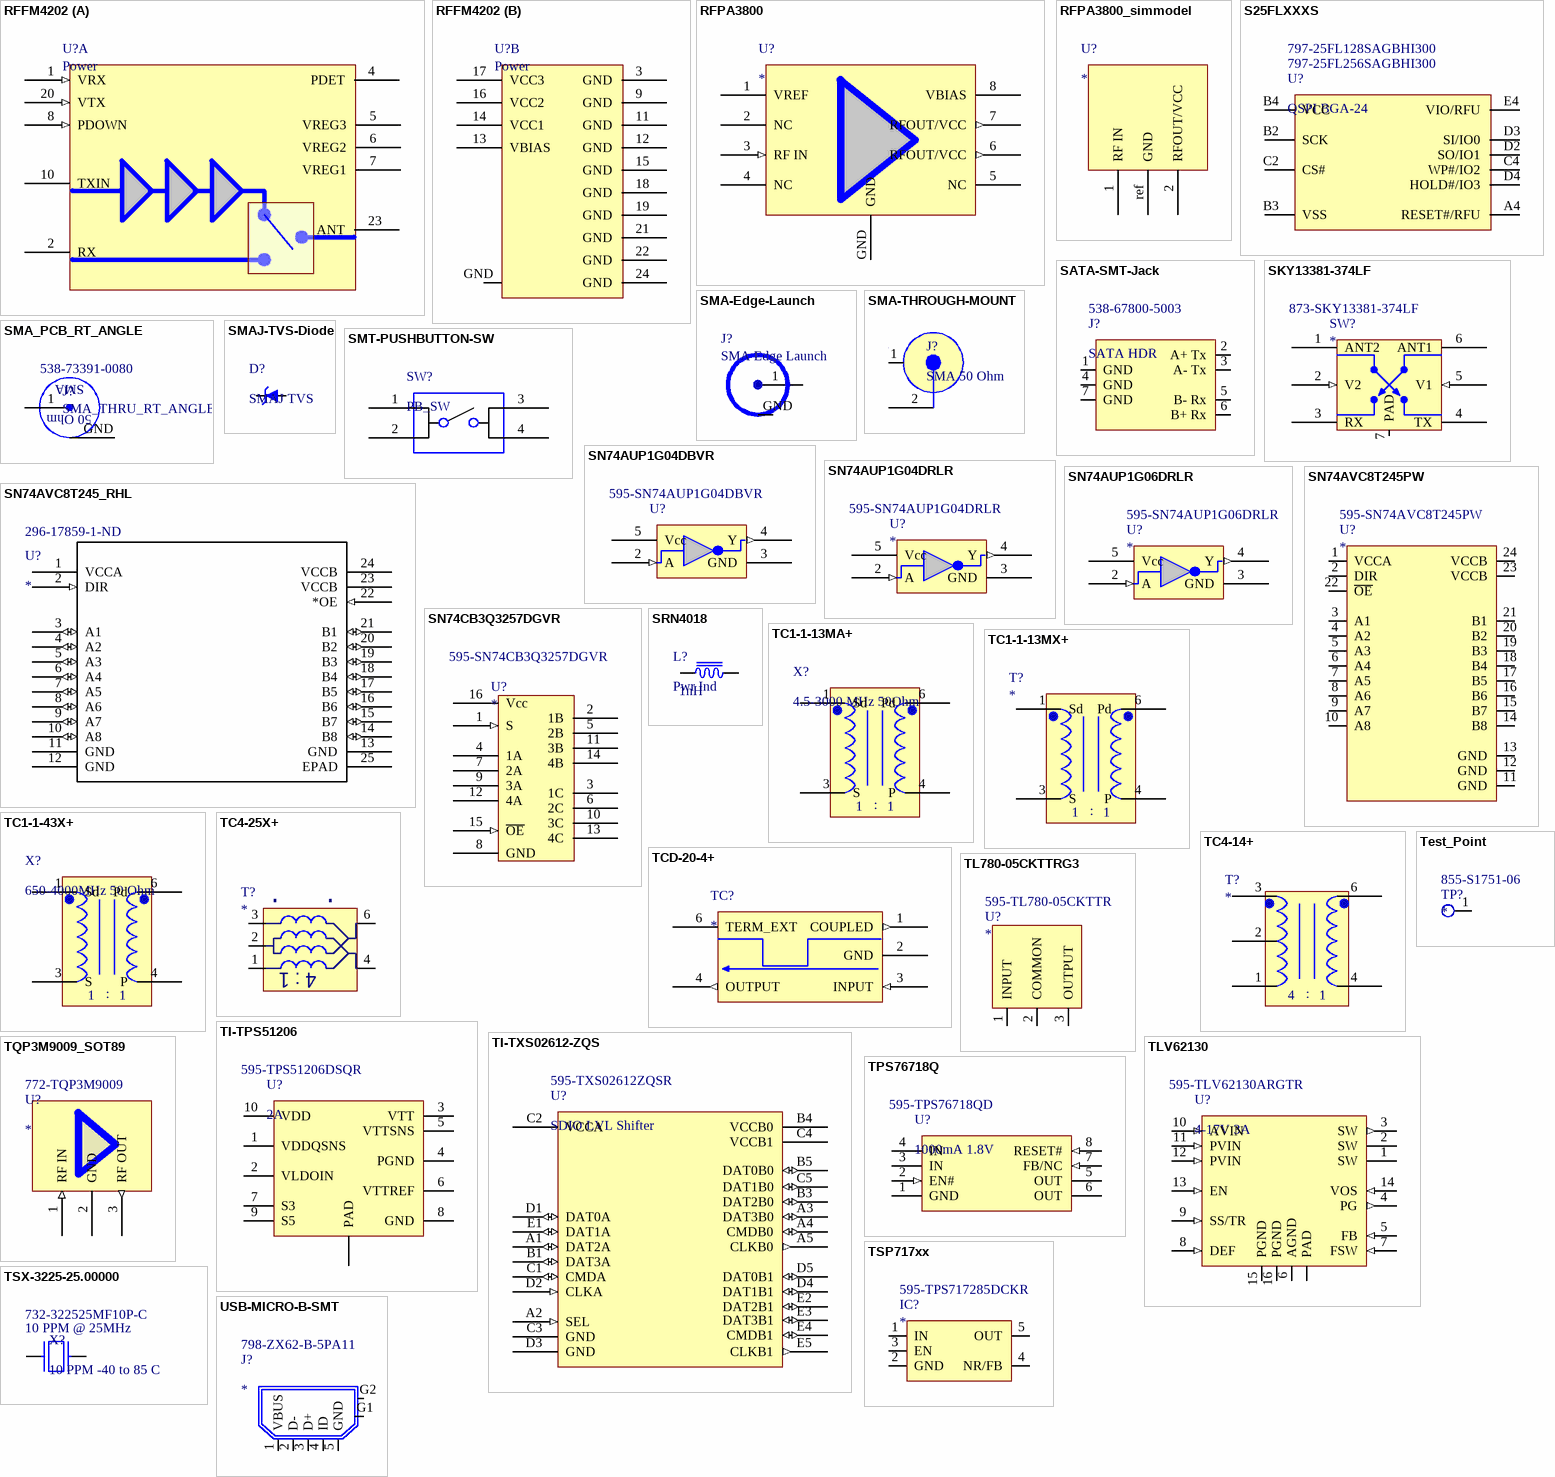
[diagram p5: symbols RFFM4202 to USB-MICRO-B-SMT]

## RFFM4202
designator U?, comment Power
5V, 2.4 to 2.5 GHz FEM w/ PA + PwrDet + SW; Manufacturer: RFMD; Supplier 1: RFMD; Supplier Part Number 1: RFFM4202
footprint RFFM4202 (RFFM4202_2.4GHZ_FEM_LAMINATE)
part A pins: 1 VRX (in), 2 RX (power), 4 PDET (power), 5 VREG3 (power), 6 VREG2 (power), 7 VREG1 (power), 8 PDOWN (in), 10 TXIN (power), 20 VTX (in), 23 ANT (power)
part B pins: 3 GND (power), 9 GND (power), 11 GND (power), 12 GND (power), 13 VBIAS (power), 14 VCC1 (power), 15 GND (power), 16 VCC2 (power), 17 VCC3 (power), 18 GND (power), 19 GND (power), 21 GND (power), 22 GND (power), 24 GND (power), GND GND_PAD (power)

## RFPA3800
designator U?
RFMD RFPA3800 Power Amplifier
simulation model RF3800_7V_650mA_25C (SPICE Subcircuit model based of RFMD S-params via EMWonder converter)
footprint RFPA3800_SOIC-8_v2 (SOIC, 8-Leads, Body 5.0x4.0mm (max), Pitch 1.27mm, IPC Medium Density)
pins: 1 VREF (power), 2 NC, 3 RF IN (in), 4 NC, 5 NC, 6 RFOUT/VCC (out), 7 RFOUT/VCC (out), 8 VBIAS (power), GND (power)

## RFPA3800_simmodel
designator U?
simulation model RF3800_7V_650mA_25C (SPICE Subcircuit model based of RFMD S-params via EMWonder converter)
pins: 1 RF IN, 2 RFOUT/VCC, ref GND

## S25FLXXXS
designator U?, comment QSPI BGA-24  Supplier Part Number 1: 797-25FL256SAGBHI300  Supplier Part Number 2: 797-25FL128SAGBHI300
Spansion 128/256 MB NVM Flash FAC024 BGA-24; Supplier 1: Mouser; Supplier 2: Mouser
footprint BGA24C100P4X6_600X800X120 (BGA, 24-Leads, Body 6.00x8.00mmx1.20mm, Pitch 1.00mm)
pins: A4 RESET#/RFU, B2 SCK, B3 VSS, B4 VCC, C2 CS#, C4 WP#/IO2, D2 SO/IO1, D3 SI/IO0, D4 HOLD#/IO3, E4 VIO/RFU

## SATA-SMT-Jack
designator J?, comment SATA HDR  Supplier Part Number 1: 538-67800-5003
Molex SMT SATA Jack, Shrouded, 67800-5003; Supplier 1: Mouser
footprint Molex_67800-5003_V2 (SATA SMT Vertical Shrounded Connector 67800-5003)
pins: 1 GND (power), 2 A+ Tx (power), 3 A- Tx (power), 4 GND (power), 5 B- Rx (power), 6 B+ Rx (power), 7 GND (power)

## SKY13381-374LF
designator SW?  Supplier Part Number 1: 873-SKY13381-374LF
GaAs pHEMT DPDT switch 0.1-6.0 GHz; Supplier 1: Mouser
footprint SKY13381-374LF_v6 (SKY13381_DPDT_Switch_MLPD_1.5x1.5mm)
pins: 1 ANT2, 2 V2 (in), 3 RX, 4 TX, 5 V1 (in), 6 ANT1, 7 PAD

## SMA-Edge-Launch
designator J?, comment SMA Edge Launch
footprint SMA_Edge_Launch (SMA Edge Launch, 1.45mm Board Thickness)
pins: 1 SIG (power), GND (power)

## SMA-THROUGH-MOUNT
designator J?, comment SMA 50 Ohm
SMA 50 Ohm Female-NP, Through Mount, Straight
footprint SMA-JACK-THROUGH-MOLEX (SMA Female Jack Through-Mount PCB Connector)
pins: 1 GND (power), 2 "RF"

## SMA_PCB_RT_ANGLE
designator J?, comment SMA_THRU_RT_ANGLE  Supplier Part Number 1: 538-73391-0080
SMA 50 Ohm Female-NP Through Mount, Right-Angle Connector; Supplier 1: Mouser
footprint SMA_PCB_RtAngle_Female_MolexSD-73391-008_v4 (SMA Female Jack Through-Mount Right Angle)
pins: 1 Signal (power), GND (power)
text: SMA; 50 Ohm

## SMAJ-TVS-Diode
designator D?, comment SMAJ TVS
Littelfuse TVS Diode, SMAJ Series
footprint DO-214AC (SMA) (DO-214AC for Littelfuse TVS Diodes SMAJ Series)
pins: A, K

## SMT-PUSHBUTTON-SW
designator SW?, comment PB_SW
Pushbutton Switch - Long Button
footprint PUSHBUTTON_SW_SMT (SMT Pushbutton Switch, Mouser 506-1571563-9)
pins: 1, 2, 3, 4

## SN74AUP1G04DBVR
designator U?  Supplier Part Number 1: 595-SN74AUP1G04DBVR
TI Low-Power Inverter SOT-23-5 (larger); Supplier 1: Mouser
footprint DBV_SOT-23-5 (TI DBV Package for Low-Power Single-Gate Inverter)
pins: 2 A (in), 3 GND (power), 4 Y (out), 5 Vcc (power)

## SN74AUP1G04DRLR
designator U?  Supplier Part Number 1: 595-SN74AUP1G04DRLR
Inverters Lo Pwr Sngl Invter Gate; Supplier 1: Mouser
footprint DRL_R-PDSO-N5_v2 (SN74AUP1G06DRLR_SOT_Inverter)
pins: 2 A (in), 3 GND (power), 4 Y (out), 5 Vcc (power)

## SN74AUP1G06DRLR
designator U?  Supplier Part Number 1: 595-SN74AUP1G06DRLR
TI Single Inverting Buffer SOP; Supplier 1: Mouser
footprint DRL_R-PDSO-N5_v2 (SN74AUP1G06DRLR_SOT_Inverter)
pins: 2 A (in), 3 GND (power), 4 Y (out), 5 Vcc (power)

## SN74AVC8T245_RHL
designator U?  Supplier Part Number 1: 296-17859-1-ND
8-Bit Dual-Supply Bus Transceiver QFN 320 Mbps; Manufacturer: Texas Instruments; GENERIC_PART_NUMBER: SN74AVC8T245; Manufacturer_Part_Number: sn74avc8t245_rhl_24; FAMILY_NAME: DIRECTION CONTROL DUAL SUPPLY TRANSLATOR; PIN_COUNT: 24; PACKAGE_DESIGNATOR: RHL; Datasheet URL: http://www.ti.com/lit/gpn/SN74AVC8T245; INDUSTRY_STD_PKG_TYPE: QFN; Vendor: Texas Instruments; RefDes: RefDes; Type: DEV; Value: Value; Supplier 1: Digi-Key
footprint RHL24_4P05X2P05_V3 (TI Bus Translator RVQFN Package)
pins: 1 VCCA (power), 2 DIR (in), 3 A1 (io), 4 A2 (io), 5 A3 (io), 6 A4 (io), 7 A5 (io), 8 A6 (io), 9 A7 (io), 10 A8 (io), 11 GND (power), 12 GND (power), 13 GND (power), 14 B8 (io), 15 B7 (io), 16 B6 (io), 17 B5 (io), 18 B4 (io), 19 B3 (io), 20 B2 (io), 21 B1 (io), 22 *OE (in), 23 VCCB (power), 24 VCCB (power), 25 EPAD

## SN74AVC8T245PW
designator U?  Supplier Part Number 1: 595-SN74AVC8T245PW
8-bit Dual Supply Bus Transceiver; Supplier 1: Mouser
footprint TSSOP-24_TI (TSOP, 24-Leads, Body 7.9x4.5mm (max), Pitch 0.65mm, IPC Medium Density)
pins: 1 VCCA (power), 2 DIR, 3 A1, 4 A2, 5 A3, 6 A4, 7 A5, 8 A6, 9 A7, 10 A8, 11 GND, 12 GND, 13 GND, 14 B8, 15 B7, 16 B6, 17 B5, 18 B4, 19 B3, 20 B2, 21 B1, 22 ~{OE}, 23 VCCB, 24 VCCB

## SN74CB3Q3257DGVR
designator U?  Supplier Part Number 1: 595-SN74CB3Q3257DGVR
4-bit MUX/DEMUX 1-of-2  0-5V SIG 3.3V CTRL TVSOP-16; Supplier 1: Mouser
footprint TVSOP16_v5
pins: 1 S (in), 2 1B, 3 1C, 4 1A, 5 2B, 6 2C, 7 2A, 8 GND (power), 9 3A, 10 3C, 11 3B, 12 4A, 13 4C, 14 4B, 15 ~{OE} (in), 16 Vcc (power)

## SRN4018
designator L?, comment Pwr Ind  value 1nH
SRN4018 Semi-Shielded SMT Power Inductor
footprint srn4018 (Bourns SRN4018 Series SMT Semi-Shielded Power Inductor)
pins: 1, 2

## TC1-1-13MA+
designator X?, comment 4.5-3000 MHz 50Ohm
Mini-Circuits SMT RF Transformer 4.5-3000 MHz; Value: 1:1; Supplier 1: Mini-Circuits; Supplier Part Number 1: TC1-1-13MA+
footprint AT224-1A-MINICIRCUITS (Mini-Circuits AT224-1 Case for TC1-1-13MA+)
pins: 1 Sd, 3 S, 4 P, 6 Pd
text: :

## TC1-1-13MX+
designator T?
Mini-Circuits Type G 4.5-3000MHz 1:1 Transformer
footprint AT1521_MiniCircuits (AT1521 Footprint for MiniCircuits Transformers)
pins: 1 Sd, 3 S, 4 P, 6 Pd
text: :

## TC1-1-43X+
designator X?, comment 650-4000MHz 50 Ohm
Mini-Circuits 50 Ohm SMT 1:1 Transformer 650-4000 MHz; Supplier 1: Mini-Circuits; Supplier Part Number 1: TC1-1-43X+; Value: 1:1
footprint AT224-1A-MINICIRCUITS (Mini-Circuits AT224-1 Case for TC1-1-13MA+)
pins: 1 Sd, 3 S, 4 P, 6 Pd
text: :

## TC4-14+
designator T?
Mini-Circuits Type A Transformer, 4:1 Ohm, CT, 200-1400MHz
footprint AT224-1_V2 (Mini-Circuits AT224-1 Case for TC4-14+)
pins: 1 S, 2 S CT, 3 S DOT, 4 P, 6 P DOT
text: :

## TC4-25X+
designator T?
Mini-Circuits Type A Transformer, 4:1 Ohm, CT, 500-2500MHz
footprint AT224-1_V2 (Mini-Circuits AT224-1 Case for TC4-14+)
pins: 1 S, 2 S CT, 3 S DOT, 4 P, 6 P DOT
text: .; 4 : 1

## TCD-20-4+
designator TC?
Minicircuits Directional Coupler
footprint DB714-MINICIRCUITS_V2 (DB714 Footprint for Mini-Circuits Directional Couplers)
pins: 1 COUPLED (out) "Coupled RF", 2 GND (power) "Ground", 3 INPUT (in) "RF Input", 4 OUTPUT (out) "RF Output", 5 NOT USED (io) hidden, 6 TERM_EXT "50 Ohm Terminate Externally"

## Test_Point
designator TP?  Supplier Part Number 1: 855-S1751-06
Harwin Large Loop Test Point; Supplier 1: Mouser
footprint Test_Point (Harwin S1751-46R Test Point)
pins: 1

## TI-TPS51206
designator U?, comment 2A  Supplier Part Number 1: 595-TPS51206DSQR
TI 2A Sink/Source DDR Termination Regulator for DDR2, DDR3, DDR3L; Supplier 1: Mouser
footprint TI-DSQ-S-PWSON-N10 (TI Plastic Small Outline No-Lead for TPS51206)
pins: 1 VDDQSNS, 2 VLDOIN, 3 VTT, 4 PGND, 5 VTTSNS, 6 VTTREF, 7 S3, 8 GND, 9 S5, 10 VDD, PAD

## TI-TXS02612-ZQS
designator U?, comment SDIO LVL Shifter  Supplier Part Number 1: 595-TXS02612ZQSR
TI SDIO Port Expander, Level Shifter PBGA-24; Supplier 1: Mouser
footprint BGA-MICROSTAR-ZQS-24 (TI ZQS Package S-PBGA-N24 Plastic Ball Grid Array)
pins: A1 DAT2A (io), A2 SEL (in), A3 DAT3B0 (io), A4 CMDB0 (io), A5 CLKB0 (out), B1 DAT3A (io), B3 DAT2B0 (io), B4 VCCB0 (power), B5 DAT0B0 (io), C1 CMDA (io), C2 VCCA (power), C3 GND (power), C4 VCCB1 (power), C5 DAT1B0 (io), D1 DAT0A (io), D2 CLKA (in), D3 GND (power), D4 DAT1B1 (io), D5 DAT0B1 (io), E1 DAT1A (io), E2 DAT2B1 (io), E3 DAT3B1 (io), E4 CMDB1 (io), E5 CLKB1 (out)

## TL780-05CKTTRG3
designator U?  Supplier Part Number 1: 595-TL780-05CKTTR
TI 5V, 1500mA LDO; Supplier 1: Mouser
footprint TO-263 (KTT TO-263 Land for TI TL780 LDO)
pins: 1 INPUT, 2 COMMON, 3 OUTPUT

## TLV62130
designator U?, comment 4-17V 3A  Supplier Part Number 1: 595-TLV62130ARGTR
4-17V 3A Step-Down Voltage Converter; Supplier 1: Mouser
footprint S-PVQFN-N16 (QFN, 16-Leads, Body 3.00x3.00mm, Pitch 0.50mm, Thermal Pad 1.66x1.66mm, IPC Medium Density)
pins: 1 SW, 2 SW, 3 SW (out), 4 PG (out), 5 FB (in), 6 AGND, 7 FSW (in), 8 DEF (in), 9 SS/TR (in), 10 AVIN (in), 11 PVIN (in), 12 PVIN (in), 13 EN (in), 14 VOS (in), 15 PGND, 16 PGND, 17 PAD

## TPS76718Q
designator U?, comment 1000mA 1.8V  Supplier Part Number 1: 595-TPS76718QD
Fast Transient Response 1A LDO Linear Regulator, Fixed 1.8V; Supplier 1: Mouser
footprint SOIC-8 (SOIC, 8-Leads, Body 4.90x3.90mm, Pitch 1.27mm, IPC Medium Density)
pins: 1 GND, 2 EN# (in), 3 IN, 4 IN, 5 OUT, 6 OUT, 7 FB/NC (in), 8 RESET# (in)

## TQP3M9009_SOT89
designator U?  Supplier Part Number 1: 772-TQP3M9009
Triquint TQP3M9009 Power Amplifier; Supplier 1: Mouser
simulation model TQP3M9009 (PA model approximated from measured S-parameters via EMWonder's converter)
footprint TQP3M9009_SOT-89_v4 (SOT-89_Vias_Backplane)
pins: 1 RF IN (in), 2 GND (power), 3 RF OUT (out)

## TSP717xx
designator IC?  Supplier Part Number 1: 595-TPS717285DCKR
TI LDO Regulator SC70-5 0.9-6.2V; Supplier 1: Mouser
footprint SC70-5 (TI SC70 5-pin package)
pins: 1 IN, 2 GND, 3 EN, 4 NR/FB, 5 OUT

## TSX-3225-25.00000
designator X?, comment 10 PPM -40 to 85 C  value 10 PPM @ 25MHz  Supplier Part Number 1: 732-322525MF10P-C
Supplier 1: Mouser
footprint 3.2mm x 2.5mm XTAL
pins: 1, 2 hidden to GND, 3, 4 hidden to GND

## USB-MICRO-B-SMT
designator J?  Supplier Part Number 1: 798-ZX62-B-5PA11
Molex Micro-USB Type B Connector; Supplier 1: Mouser
footprint USB_MICROB_SMT_R3 (USB Micro B, Standard (bottom mount), Shell SMT, Hirose)
pins: 1 VBUS (power), 2 D-, 3 D+, 4 ID, 5 GND (power), G1 Chassis Ground, G2 Chassis GND

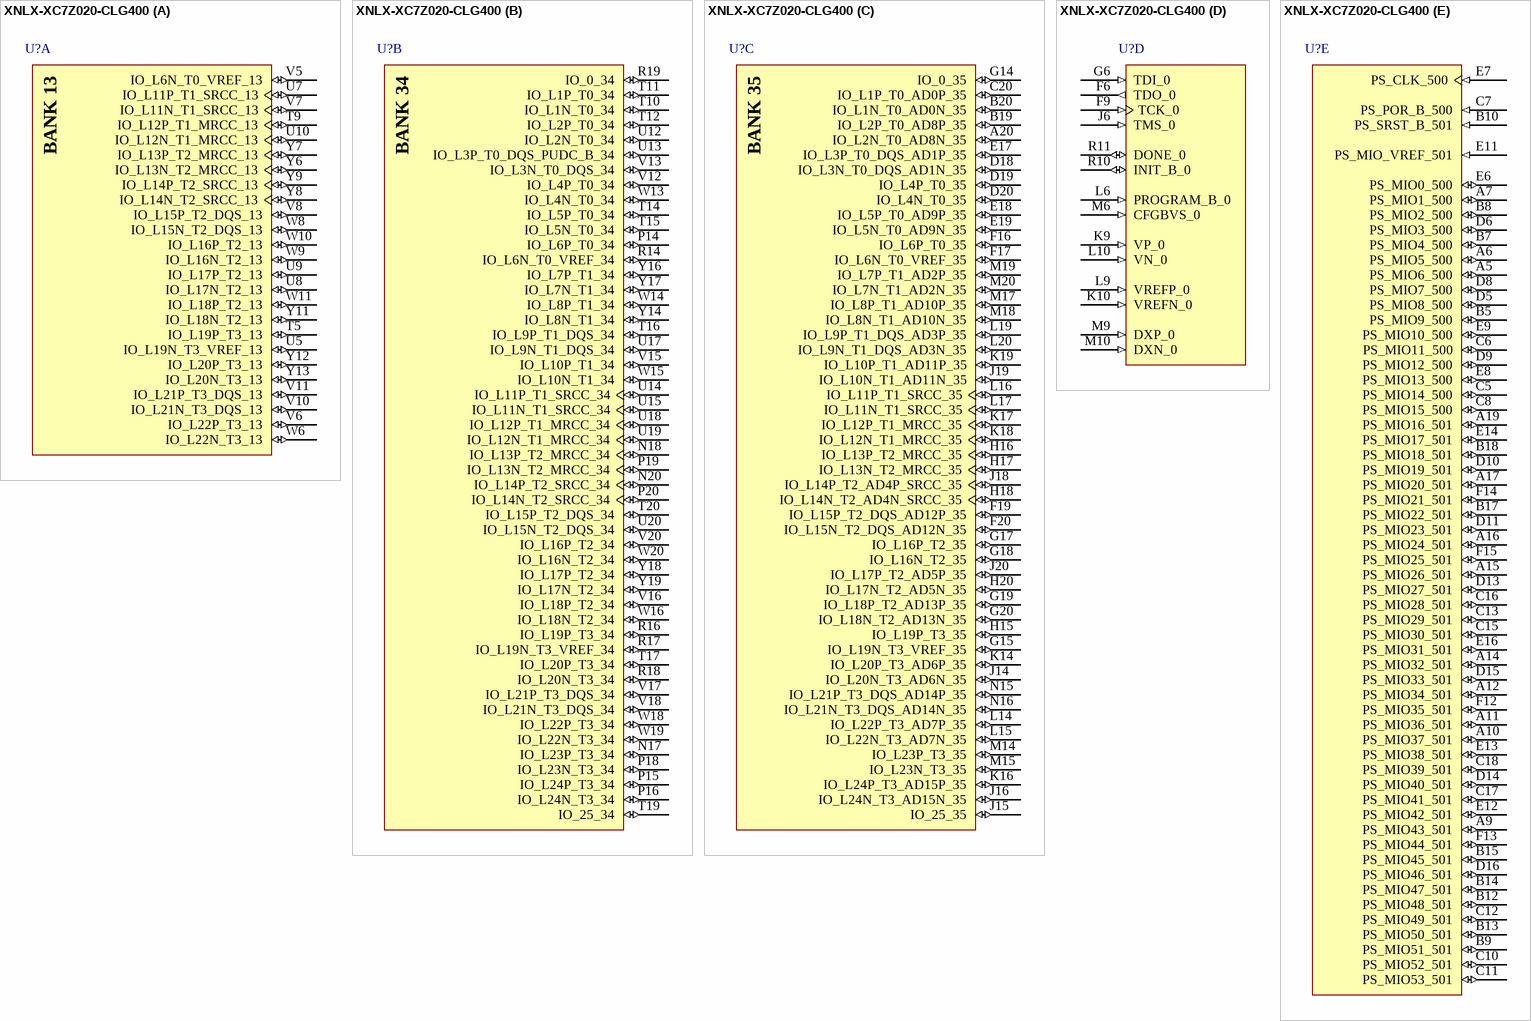
[diagram p6: symbol XNLX-XC7Z020-CLG400]

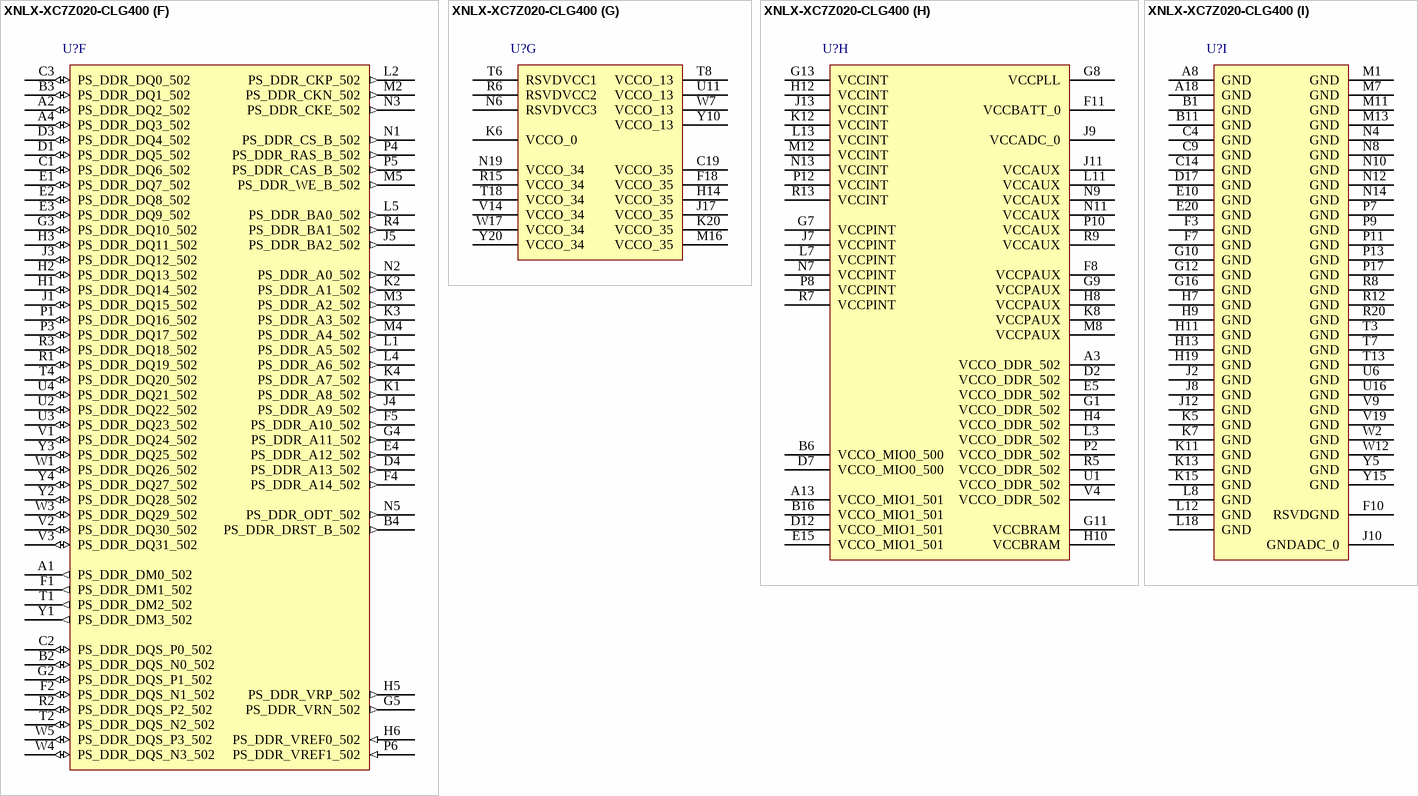
[diagram p7: symbol XNLX-XC7Z020-CLG400]